# Altium integrated library Renesas Microcontroller H8.IntLib: 489 symbols (part 19 of 25)
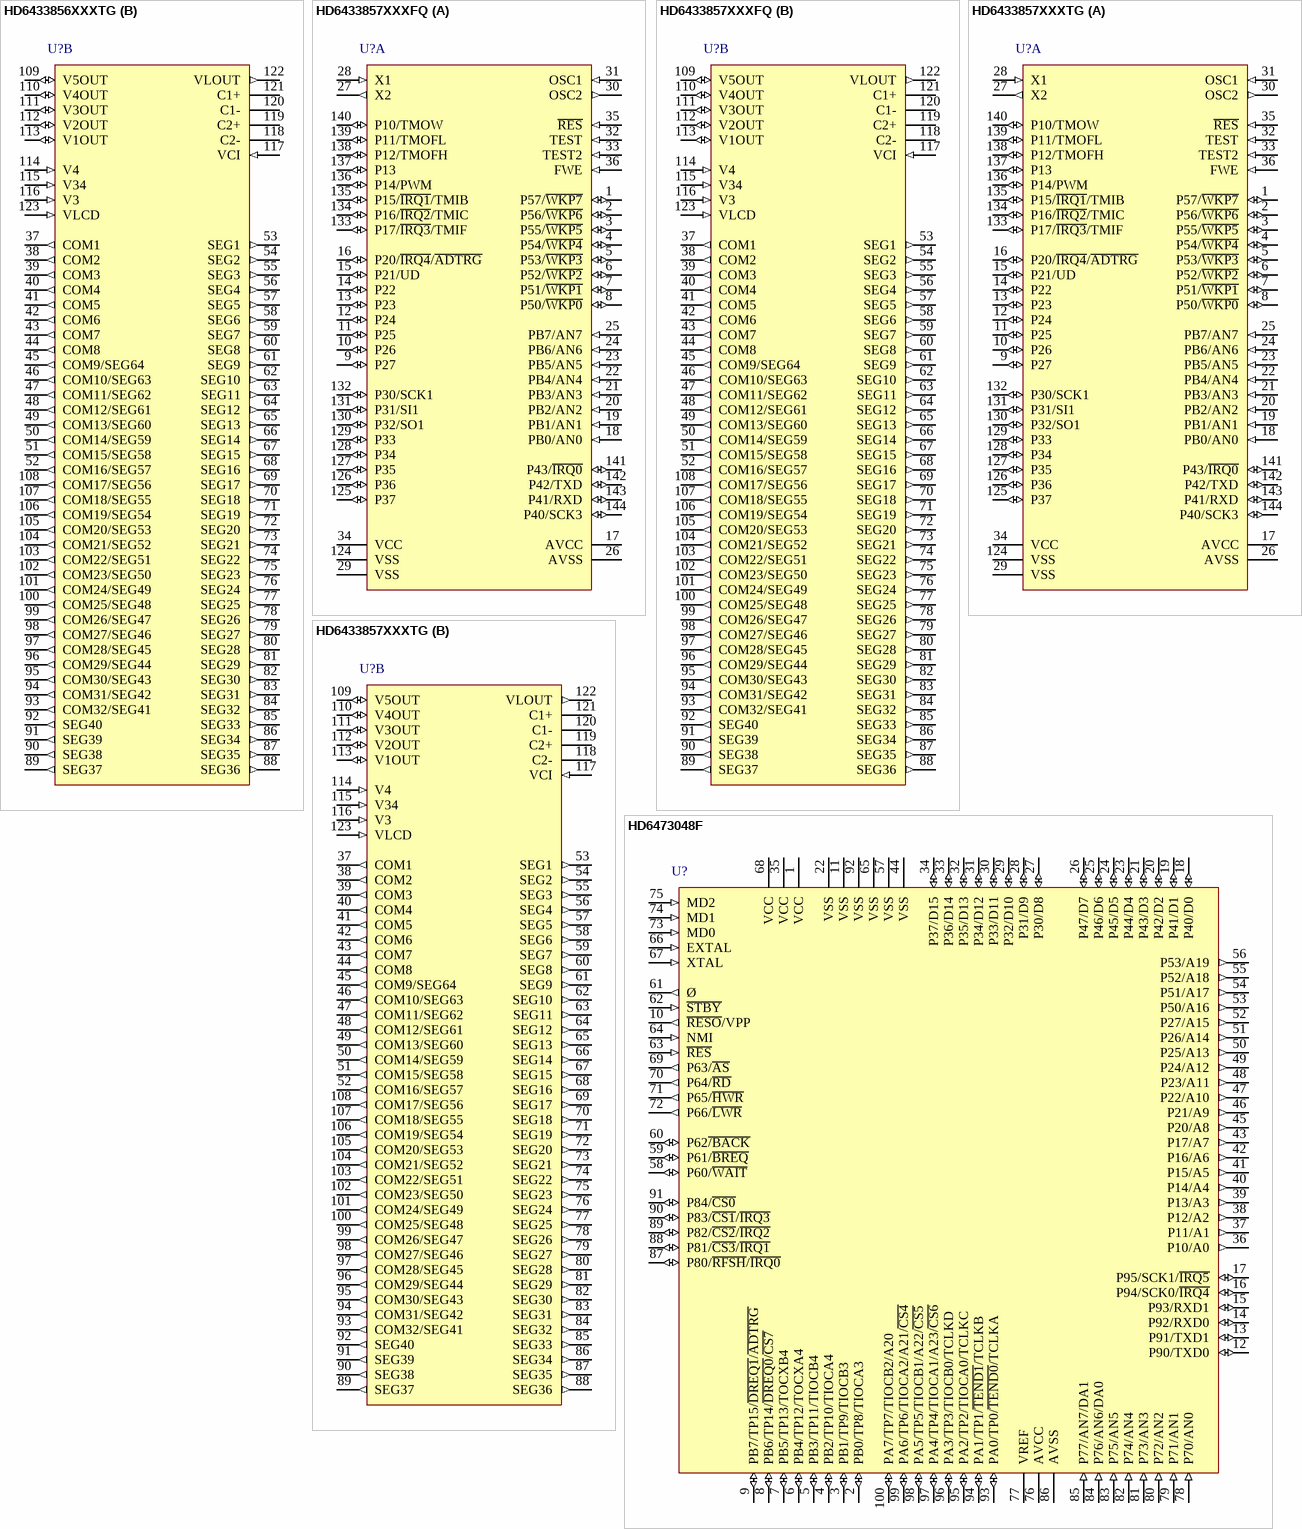
[diagram p106: symbols HD6433856XXXTG to HD6473048F]

## HD6433857XXXFQ
designator U?
H8 Family 8-bit MCU, H8/300L Super Low Power, 60K ROM, 2K RAM, 2.5MHz, 3.0 to 5.5V, 144-Pin QFP; Published: 28-Aug-2009; DatasheetVersion: Rev.3.00, Jul-2007; PackageVersion: Sep-2005; PackageReference: PLQP0144KC-A; Publisher: Altium Limited; PackageDescription: 144-Pin Plastic Low Profile QFP, 20 x 20 x 1.45 mm Body, 0.5 mm Pitch; Code_JEITA: P-LQFP144-20x20-0.50; Code_IPC: SQFP50P2200X2200-144; ComponentLink1Description: Manufacturer Link; ComponentLink1URL: http://sg.renesas.com/fmwk.jsp?cnt=h8_family_landing.jsp&fp=/products/mpumcu/h8_family/; ComponentLink2Description: Datasheet; ComponentLink2URL: http://documentation.renesas.com/eng/products/mpumcu/rej09b0397_3857hm.pdf; ComponentLink3Description: Packaging Specification; ComponentLink3URL: http://sg.renesas.com/media/products/common_info/package/pdf/ic/code/plqp0144kc_a.pdf
footprint PLQP0144KC-A_N (Shrink QFP, 144-Leads, Body 20x20mm, Pitch 0.5mm, IPC Medium Density)
footprint PLQP0144KC-A_L (Shrink QFP, 144-Leads, Body 20x20mm, Pitch 0.5mm, IPC High Density)
footprint PLQP0144KC-A_M (Shrink QFP, 144-Leads, Body 20x20mm, Pitch 0.5mm, IPC Low Density)
part A pins: 1 P57/~{WKP7} (io), 2 P56/~{WKP6} (io), 3 P55/~{WKP5} (io), 4 P54/~{WKP4} (io), 5 P53/~{WKP3} (io), 6 P52/~{WKP2} (io), 7 P51/~{WKP1} (io), 8 P50/~{WKP0} (io), 9 P27 (io), 10 P26 (io), 11 P25 (io), 12 P24 (io), 13 P23 (io), 14 P22 (io), 15 P21/UD (io), 16 P20/~{IRQ4}/~{ADTRG} (io), 17 AVCC (power), 18 PB0/AN0 (in), 19 PB1/AN1 (in), 20 PB2/AN2 (in), 21 PB3/AN3 (in), 22 PB4/AN4 (in), 23 PB5/AN5 (in), 24 PB6/AN6 (in), 25 PB7/AN7 (in), 26 AVSS (power), 27 X2 (out), 28 X1 (in), 29 VSS (power), 30 OSC2 (out), 31 OSC1 (in), 32 TEST (in), 33 TEST2 (in), 34 VCC (power), 35 ~{RES} (in), 36 FWE (in), 124 VSS (power), 125 P37 (io), 126 P36 (io), 127 P35 (io), 128 P34 (io), 129 P33 (io), 130 P32/SO1 (io), 131 P31/SI1 (io), 132 P30/SCK1 (io), 133 P17/~{IRQ3}/TMIF (io), 134 P16/~{IRQ2}/TMIC (io), 135 P15/~{IRQ1}/TMIB (io), 136 P14/PWM (io), 137 P13 (io), 138 P12/TMOFH (io), 139 P11/TMOFL (io), 140 P10/TMOW (io), 141 P43/~{IRQ0} (io), 142 P42/TXD (io), 143 P41/RXD (io), 144 P40/SCK3 (io)
part B pins: 37 COM1 (out), 38 COM2 (out), 39 COM3 (out), 40 COM4 (out), 41 COM5 (out), 42 COM6 (out), 43 COM7 (out), 44 COM8 (out), 45 COM9/SEG64 (out), 46 COM10/SEG63 (out), 47 COM11/SEG62 (out), 48 COM12/SEG61 (out), 49 COM13/SEG60 (out), 50 COM14/SEG59 (out), 51 COM15/SEG58 (out), 52 COM16/SEG57 (out), 53 SEG1 (out), 54 SEG2 (out), 55 SEG3 (out), 56 SEG4 (out), 57 SEG5 (out), 58 SEG6 (out), 59 SEG7 (out), 60 SEG8 (out), 61 SEG9 (out), 62 SEG10 (out), 63 SEG11 (out), 64 SEG12 (out), 65 SEG13 (out), 66 SEG14 (out), 67 SEG15 (out), 68 SEG16 (out), 69 SEG17 (out), 70 SEG18 (out), 71 SEG19 (out), 72 SEG20 (out), 73 SEG21 (out), 74 SEG22 (out), 75 SEG23 (out), 76 SEG24 (out), 77 SEG25 (out), 78 SEG26 (out), 79 SEG27 (out), 80 SEG28 (out), 81 SEG29 (out), 82 SEG30 (out), 83 SEG31 (out), 84 SEG32 (out), 85 SEG33 (out), 86 SEG34 (out), 87 SEG35 (out), 88 SEG36 (out), 89 SEG37 (out), 90 SEG38 (out), 91 SEG39 (out), 92 SEG40 (out), 93 COM32/SEG41 (out), 94 COM31/SEG42 (out), 95 COM30/SEG43 (out), 96 COM29/SEG44 (out), 97 COM28/SEG45 (out), 98 COM27/SEG46 (out), 99 COM26/SEG47 (out), 100 COM25/SEG48 (out), 101 COM24/SEG49 (out), 102 COM23/SEG50 (out), 103 COM22/SEG51 (out), 104 COM21/SEG52 (out), 105 COM20/SEG53 (out), 106 COM19/SEG54 (out), 107 COM18/SEG55 (out), 108 COM17/SEG56 (out), 109 V5OUT (io), 110 V4OUT (io), 111 V3OUT (io), 112 V2OUT (io), 113 V1OUT (io), 114 V4 (in), 115 V34 (in), 116 V3 (in), 117 VCI (in), 118 C2-, 119 C2+, 120 C1-, 121 C1+, 122 VLOUT (out), 123 VLCD (in)

## HD6433857XXXTG
designator U?
H8 Family 8-bit MCU, H8/300L Super Low Power, 60K ROM, 2K RAM, 2.5MHz, 3.0 to 5.5V, 144-Pin QFP; Published: 28-Aug-2009; DatasheetVersion: Rev.3.00, Jul-2007; PackageVersion: Sep-2005; PackageReference: PTQP0144LC-A; Publisher: Altium Limited; PackageDescription: 144-Pin Plastic Thin Quad Flat Pack, 16 x 16 mm Body, 0.4 mm Pitch; Code_JEITA: P-TQFP144-16x16-0.40; ComponentLink1Description: Manufacturer Link; ComponentLink1URL: http://sg.renesas.com/fmwk.jsp?cnt=h8_family_landing.jsp&fp=/products/mpumcu/h8_family/; ComponentLink2Description: Datasheet; ComponentLink2URL: http://documentation.renesas.com/eng/products/mpumcu/rej09b0397_3857hm.pdf; ComponentLink3Description: Packaging Specification; ComponentLink3URL: http://sg.renesas.com/media/products/common_info/package/pdf/ic/code/ptqp0144lc_a.pdf
footprint PTQP0144LC-A_N (Thin QFP, 144-Leads, Body 16x16mm, Pitch 0.4mm, IPC Medium Density)
footprint PTQP0144LC-A_L (Thin QFP, 144-Leads, Body 16x16mm, Pitch 0.4mm, IPC High Density)
footprint PTQP0144LC-A_M (Thin QFP, 144-Leads, Body 16x16mm, Pitch 0.4mm, IPC Low Density)
part A pins: 1 P57/~{WKP7} (io), 2 P56/~{WKP6} (io), 3 P55/~{WKP5} (io), 4 P54/~{WKP4} (io), 5 P53/~{WKP3} (io), 6 P52/~{WKP2} (io), 7 P51/~{WKP1} (io), 8 P50/~{WKP0} (io), 9 P27 (io), 10 P26 (io), 11 P25 (io), 12 P24 (io), 13 P23 (io), 14 P22 (io), 15 P21/UD (io), 16 P20/~{IRQ4}/~{ADTRG} (io), 17 AVCC (power), 18 PB0/AN0 (in), 19 PB1/AN1 (in), 20 PB2/AN2 (in), 21 PB3/AN3 (in), 22 PB4/AN4 (in), 23 PB5/AN5 (in), 24 PB6/AN6 (in), 25 PB7/AN7 (in), 26 AVSS (power), 27 X2 (out), 28 X1 (in), 29 VSS (power), 30 OSC2 (out), 31 OSC1 (in), 32 TEST (in), 33 TEST2 (in), 34 VCC (power), 35 ~{RES} (in), 36 FWE (in), 124 VSS (power), 125 P37 (io), 126 P36 (io), 127 P35 (io), 128 P34 (io), 129 P33 (io), 130 P32/SO1 (io), 131 P31/SI1 (io), 132 P30/SCK1 (io), 133 P17/~{IRQ3}/TMIF (io), 134 P16/~{IRQ2}/TMIC (io), 135 P15/~{IRQ1}/TMIB (io), 136 P14/PWM (io), 137 P13 (io), 138 P12/TMOFH (io), 139 P11/TMOFL (io), 140 P10/TMOW (io), 141 P43/~{IRQ0} (io), 142 P42/TXD (io), 143 P41/RXD (io), 144 P40/SCK3 (io)
part B pins: 37 COM1 (out), 38 COM2 (out), 39 COM3 (out), 40 COM4 (out), 41 COM5 (out), 42 COM6 (out), 43 COM7 (out), 44 COM8 (out), 45 COM9/SEG64 (out), 46 COM10/SEG63 (out), 47 COM11/SEG62 (out), 48 COM12/SEG61 (out), 49 COM13/SEG60 (out), 50 COM14/SEG59 (out), 51 COM15/SEG58 (out), 52 COM16/SEG57 (out), 53 SEG1 (out), 54 SEG2 (out), 55 SEG3 (out), 56 SEG4 (out), 57 SEG5 (out), 58 SEG6 (out), 59 SEG7 (out), 60 SEG8 (out), 61 SEG9 (out), 62 SEG10 (out), 63 SEG11 (out), 64 SEG12 (out), 65 SEG13 (out), 66 SEG14 (out), 67 SEG15 (out), 68 SEG16 (out), 69 SEG17 (out), 70 SEG18 (out), 71 SEG19 (out), 72 SEG20 (out), 73 SEG21 (out), 74 SEG22 (out), 75 SEG23 (out), 76 SEG24 (out), 77 SEG25 (out), 78 SEG26 (out), 79 SEG27 (out), 80 SEG28 (out), 81 SEG29 (out), 82 SEG30 (out), 83 SEG31 (out), 84 SEG32 (out), 85 SEG33 (out), 86 SEG34 (out), 87 SEG35 (out), 88 SEG36 (out), 89 SEG37 (out), 90 SEG38 (out), 91 SEG39 (out), 92 SEG40 (out), 93 COM32/SEG41 (out), 94 COM31/SEG42 (out), 95 COM30/SEG43 (out), 96 COM29/SEG44 (out), 97 COM28/SEG45 (out), 98 COM27/SEG46 (out), 99 COM26/SEG47 (out), 100 COM25/SEG48 (out), 101 COM24/SEG49 (out), 102 COM23/SEG50 (out), 103 COM22/SEG51 (out), 104 COM21/SEG52 (out), 105 COM20/SEG53 (out), 106 COM19/SEG54 (out), 107 COM18/SEG55 (out), 108 COM17/SEG56 (out), 109 V5OUT (io), 110 V4OUT (io), 111 V3OUT (io), 112 V2OUT (io), 113 V1OUT (io), 114 V4 (in), 115 V34 (in), 116 V3 (in), 117 VCI (in), 118 C2-, 119 C2+, 120 C1-, 121 C1+, 122 VLOUT (out), 123 VLCD (in)

## HD6473048F
designator U?
H8 Family 32/16-bit CISC, H8/300H, 128K ROM, 4K RAM, 18MHz, 4.5 to 5.5V, 100-Pin QFP; Published: 28-Aug-2009; DatasheetVersion: Rev.3.00, Sep-2006; PackageVersion: Sep-2009; PackageReference: PRQP0100KA-A; Publisher: Altium Limited; PackageDescription: 100-Pin Plastic Quad Flat Pack, 14 x 14 x 2.7 mm Body, 0.5 mm Pitch; Code_JEITA: P-QFP100-14x14-0.50; ComponentLink1Description: Manufacturer Link; ComponentLink1URL: http://sg.renesas.com/fmwk.jsp?cnt=h8_family_landing.jsp&fp=/products/mpumcu/h8_family/; ComponentLink2Description: Datasheet; ComponentLink2URL: http://documentation.renesas.com/eng/products/mpumcu/rej09b0259_3048hm.pdf; ComponentLink3Description: Packaging Specification; ComponentLink3URL: http://sg.renesas.com/media/products/common_info/package/pdf/ic/code/prqp0100ka_a.pdf
footprint PRQP0100KA-A_N (Shrink QFP, 100-Leads, Body 14x14mm, Pitch 0.5mm, IPC Medium Density)
footprint PRQP0100KA-A_L (Shrink QFP, 100-Leads, Body 14x14mm, Pitch 0.5mm, IPC High Density)
footprint PRQP0100KA-A_M (Shrink QFP, 100-Leads, Body 14x14mm, Pitch 0.5mm, IPC Low Density)
pins: 1 VCC (power), 2 PB0/TP8/TIOCA3 (io), 3 PB1/TP9/TIOCB3 (io), 4 PB2/TP10/TIOCA4 (io), 5 PB3/TP11/TIOCB4 (io), 6 PB4/TP12/TOCXA4 (io), 7 PB5/TP13/TOCXB4 (io), 8 PB6/TP14/~{DREQ0}/~{CS7} (io), 9 PB7/TP15/~{DREQ1}/~{ADTRG} (io), 10 ~{RESO}/VPP (out), 11 VSS (power), 12 P90/TXD0 (io), 13 P91/TXD1 (io), 14 P92/RXD0 (io), 15 P93/RXD1 (io), 16 P94/SCK0/~{IRQ4} (io), 17 P95/SCK1/~{IRQ5} (io), 18 P40/D0 (io), 19 P41/D1 (io), 20 P42/D2 (io), 21 P43/D3 (io), 22 VSS (power), 23 P44/D4 (io), 24 P45/D5 (io), 25 P46/D6 (io), 26 P47/D7 (io), 27 P30/D8 (io), 28 P31/D9 (io), 29 P32/D10 (io), 30 P33/D11 (io), 31 P34/D12 (io), 32 P35/D13 (io), 33 P36/D14 (io), 34 P37/D15 (io), 35 VCC (power), 36 P10/A0 (out), 37 P11/A1 (out), 38 P12/A2 (out), 39 P13/A3 (out), 40 P14/A4 (out), 41 P15/A5 (out), 42 P16/A6 (out), 43 P17/A7 (out), 44 VSS (power), 45 P20/A8 (out), 46 P21/A9 (out), 47 P22/A10 (out), 48 P23/A11 (out), 49 P24/A12 (out), 50 P25/A13 (out), 51 P26/A14 (out), 52 P27/A15 (out), 53 P50/A16 (out), 54 P51/A17 (out), 55 P52/A18 (out), 56 P53/A19 (out), 57 VSS (power), 58 P60/~{WAIT} (io), 59 P61/~{BREQ} (io), 60 P62~{/BACK} (io), 61 Ø (out), 62 ~{STBY} (in), 63 ~{RES} (in), 64 NMI (in), 65 VSS (power), 66 EXTAL (in), 67 XTAL (in), 68 VCC (power), 69 P63/~{AS} (out), 70 P64/~{RD} (out), 71 P65/~{HWR} (out), 72 P66/~{LWR} (out), 73 MD0 (in), 74 MD1 (in), 75 MD2 (in), 76 AVCC (power), 77 VREF (power), 78 P70/AN0 (in), 79 P71/AN1 (in), 80 P72/AN2 (in), 81 P73/AN3 (in), 82 P74/AN4 (in), 83 P75/AN5 (in), 84 P76/AN6/DA0 (in), 85 P77/AN7/DA1 (in), 86 AVSS (power), 87 P80/~{RFSH}/~{IRQ0} (io), 88 P81/~{CS3}/~{IRQ1} (io), 89 P82/~{CS2}/~{IRQ2} (io), 90 P83/~{CS1}/~{IRQ3} (io), 91 P84/~{CS0} (io), 92 VSS (power), 93 PA0/TP0/~{TEND0}/TCLKA (io), 94 PA1/TP1/~{TEND1}/TCLKB (io), 95 PA2/TP2/TIOCA0/TCLKC (io), 96 PA3/TP3/TIOCB0/TCLKD (io), 97 PA4/TP4/TIOCA1/A23/~{CS6} (io), 98 PA5/TP5/TIOCB1/A22/~{CS5} (io), 99 PA6/TP6/TIOCA2/A21/~{CS4} (io), 100 PA7/TP7/TIOCB2/A20 (io)

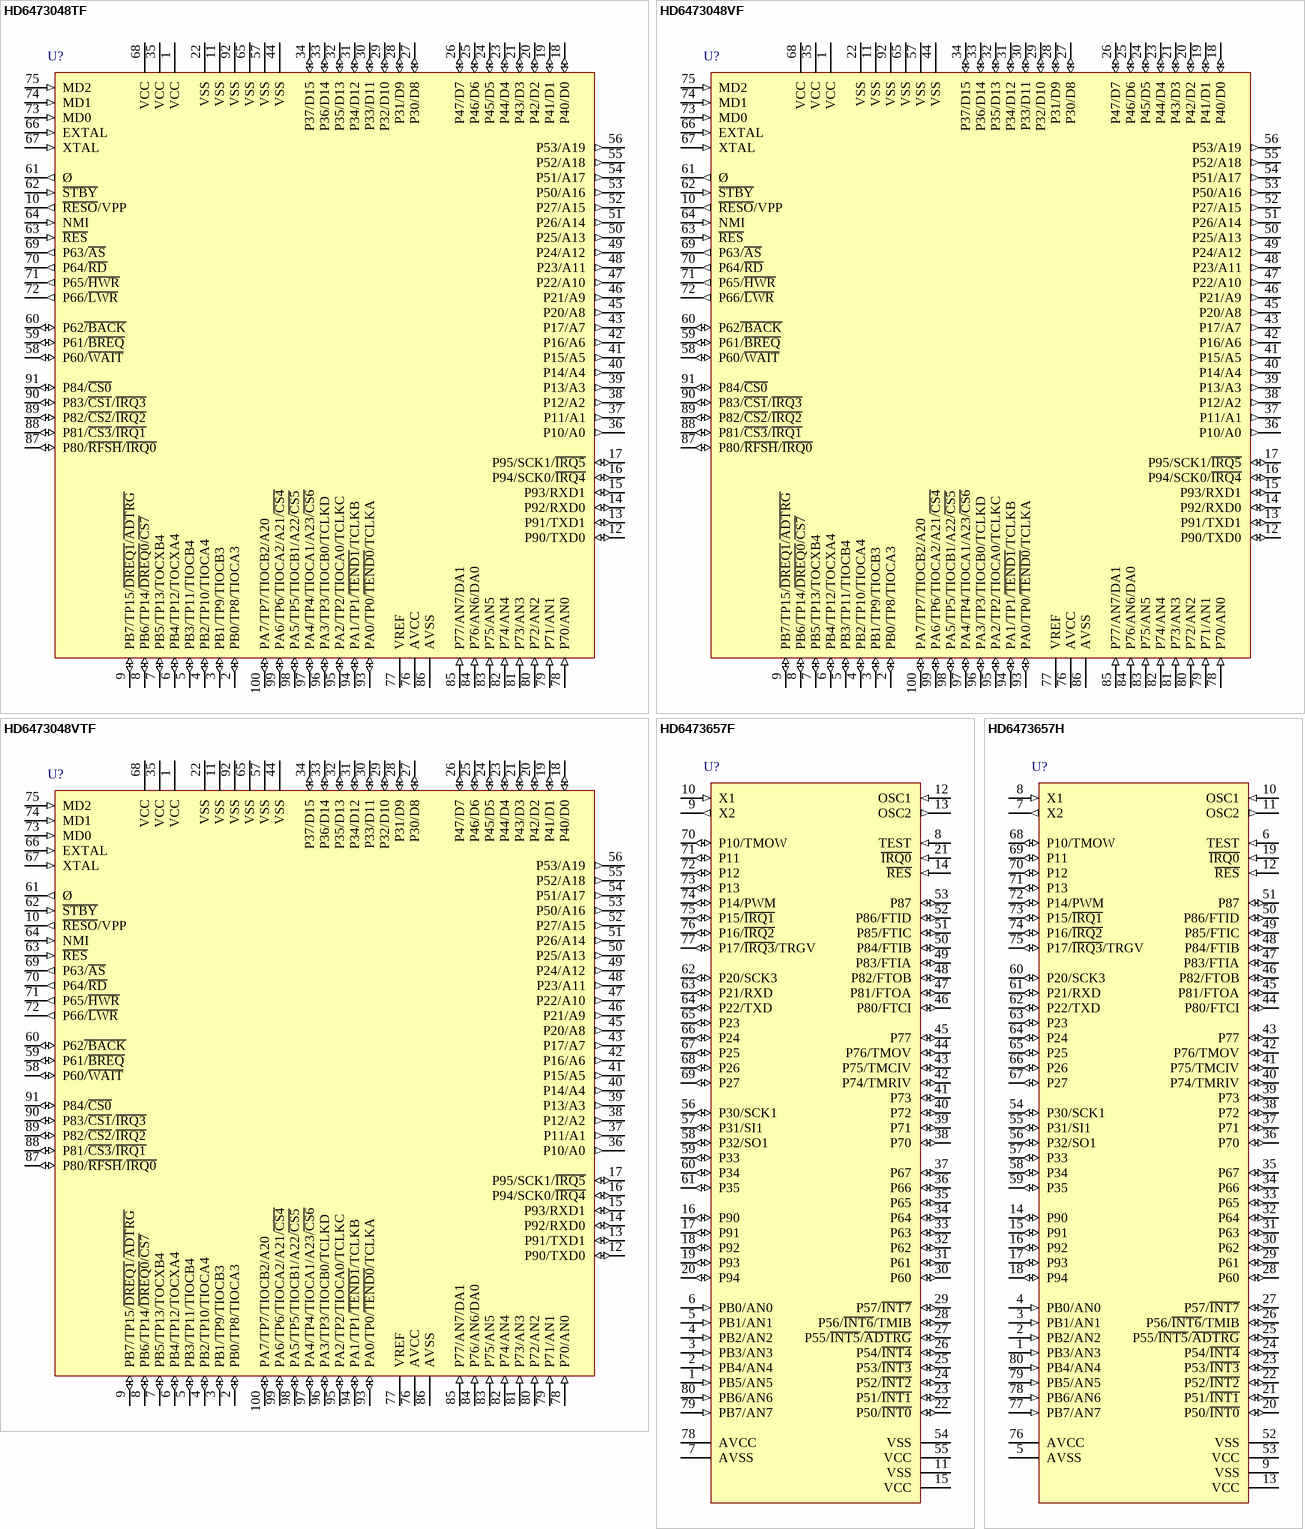
[diagram p66: symbols HD6473048TF to HD6473657H]

## HD6473048TF
designator U?
H8 Family 32/16-bit CISC, H8/300H, 128K ROM, 4K RAM, 18MHz, 4.5 to 5.5V, 100-Pin QFP; Published: 28-Aug-2009; DatasheetVersion: Rev.3.00, Sep-2006; PackageVersion: Sep-2005; PackageReference: PTQP0100KA-A; Publisher: Altium Limited; PackageDescription: 100-Pin Plastic Thin Quad Flat Pack, 14 x 14 x 1.0 mm Body, 0.5 mm Pitch; Code_JEITA: P-TQFP100-14x14-0.50; ComponentLink1Description: Manufacturer Link; ComponentLink1URL: http://sg.renesas.com/fmwk.jsp?cnt=h8_family_landing.jsp&fp=/products/mpumcu/h8_family/; ComponentLink2Description: Datasheet; ComponentLink2URL: http://documentation.renesas.com/eng/products/mpumcu/rej09b0259_3048hm.pdf; ComponentLink3Description: Packaging Specification; ComponentLink3URL: http://sg.renesas.com/media/products/common_info/package/pdf/ic/code/ptqp0100ka_a.pdf
footprint PTQP0100KA-A_N (Thin QFP, 100-Leads, Body 14x14mm, Pitch 0.5mm, IPC Medium Density)
footprint PTQP0100KA-A_L (Thin QFP, 100-Leads, Body 14x14mm, Pitch 0.5mm, IPC High Density)
footprint PTQP0100KA-A_M (Thin QFP, 100-Leads, Body 14x14mm, Pitch 0.5mm, IPC Low Density)
pins: 1 VCC (power), 2 PB0/TP8/TIOCA3 (io), 3 PB1/TP9/TIOCB3 (io), 4 PB2/TP10/TIOCA4 (io), 5 PB3/TP11/TIOCB4 (io), 6 PB4/TP12/TOCXA4 (io), 7 PB5/TP13/TOCXB4 (io), 8 PB6/TP14/~{DREQ0}/~{CS7} (io), 9 PB7/TP15/~{DREQ1}/~{ADTRG} (io), 10 ~{RESO}/VPP (out), 11 VSS (power), 12 P90/TXD0 (io), 13 P91/TXD1 (io), 14 P92/RXD0 (io), 15 P93/RXD1 (io), 16 P94/SCK0/~{IRQ4} (io), 17 P95/SCK1/~{IRQ5} (io), 18 P40/D0 (io), 19 P41/D1 (io), 20 P42/D2 (io), 21 P43/D3 (io), 22 VSS (power), 23 P44/D4 (io), 24 P45/D5 (io), 25 P46/D6 (io), 26 P47/D7 (io), 27 P30/D8 (io), 28 P31/D9 (io), 29 P32/D10 (io), 30 P33/D11 (io), 31 P34/D12 (io), 32 P35/D13 (io), 33 P36/D14 (io), 34 P37/D15 (io), 35 VCC (power), 36 P10/A0 (out), 37 P11/A1 (out), 38 P12/A2 (out), 39 P13/A3 (out), 40 P14/A4 (out), 41 P15/A5 (out), 42 P16/A6 (out), 43 P17/A7 (out), 44 VSS (power), 45 P20/A8 (out), 46 P21/A9 (out), 47 P22/A10 (out), 48 P23/A11 (out), 49 P24/A12 (out), 50 P25/A13 (out), 51 P26/A14 (out), 52 P27/A15 (out), 53 P50/A16 (out), 54 P51/A17 (out), 55 P52/A18 (out), 56 P53/A19 (out), 57 VSS (power), 58 P60/~{WAIT} (io), 59 P61/~{BREQ} (io), 60 P62~{/BACK} (io), 61 Ø (out), 62 ~{STBY} (in), 63 ~{RES} (in), 64 NMI (in), 65 VSS (power), 66 EXTAL (in), 67 XTAL (in), 68 VCC (power), 69 P63/~{AS} (out), 70 P64/~{RD} (out), 71 P65/~{HWR} (out), 72 P66/~{LWR} (out), 73 MD0 (in), 74 MD1 (in), 75 MD2 (in), 76 AVCC (power), 77 VREF (power), 78 P70/AN0 (in), 79 P71/AN1 (in), 80 P72/AN2 (in), 81 P73/AN3 (in), 82 P74/AN4 (in), 83 P75/AN5 (in), 84 P76/AN6/DA0 (in), 85 P77/AN7/DA1 (in), 86 AVSS (power), 87 P80/~{RFSH}/~{IRQ0} (io), 88 P81/~{CS3}/~{IRQ1} (io), 89 P82/~{CS2}/~{IRQ2} (io), 90 P83/~{CS1}/~{IRQ3} (io), 91 P84/~{CS0} (io), 92 VSS (power), 93 PA0/TP0/~{TEND0}/TCLKA (io), 94 PA1/TP1/~{TEND1}/TCLKB (io), 95 PA2/TP2/TIOCA0/TCLKC (io), 96 PA3/TP3/TIOCB0/TCLKD (io), 97 PA4/TP4/TIOCA1/A23/~{CS6} (io), 98 PA5/TP5/TIOCB1/A22/~{CS5} (io), 99 PA6/TP6/TIOCA2/A21/~{CS4} (io), 100 PA7/TP7/TIOCB2/A20 (io)

## HD6473048VF
designator U?
H8 Family 32/16-bit CISC, H8/300H, 128K ROM, 4K RAM, 13MHz, 3.15 to 5.5V, 100-Pin QFP; Published: 28-Aug-2009; DatasheetVersion: Rev.3.00, Sep-2006; PackageVersion: Sep-2009; PackageReference: PRQP0100KA-A; Publisher: Altium Limited; PackageDescription: 100-Pin Plastic Quad Flat Pack, 14 x 14 x 2.7 mm Body, 0.5 mm Pitch; Code_JEITA: P-QFP100-14x14-0.50; ComponentLink1Description: Manufacturer Link; ComponentLink1URL: http://sg.renesas.com/fmwk.jsp?cnt=h8_family_landing.jsp&fp=/products/mpumcu/h8_family/; ComponentLink2Description: Datasheet; ComponentLink2URL: http://documentation.renesas.com/eng/products/mpumcu/rej09b0259_3048hm.pdf; ComponentLink3Description: Packaging Specification; ComponentLink3URL: http://sg.renesas.com/media/products/common_info/package/pdf/ic/code/prqp0100ka_a.pdf
footprint PRQP0100KA-A_N (Shrink QFP, 100-Leads, Body 14x14mm, Pitch 0.5mm, IPC Medium Density)
footprint PRQP0100KA-A_L (Shrink QFP, 100-Leads, Body 14x14mm, Pitch 0.5mm, IPC High Density)
footprint PRQP0100KA-A_M (Shrink QFP, 100-Leads, Body 14x14mm, Pitch 0.5mm, IPC Low Density)
pins: 1 VCC (power), 2 PB0/TP8/TIOCA3 (io), 3 PB1/TP9/TIOCB3 (io), 4 PB2/TP10/TIOCA4 (io), 5 PB3/TP11/TIOCB4 (io), 6 PB4/TP12/TOCXA4 (io), 7 PB5/TP13/TOCXB4 (io), 8 PB6/TP14/~{DREQ0}/~{CS7} (io), 9 PB7/TP15/~{DREQ1}/~{ADTRG} (io), 10 ~{RESO}/VPP (out), 11 VSS (power), 12 P90/TXD0 (io), 13 P91/TXD1 (io), 14 P92/RXD0 (io), 15 P93/RXD1 (io), 16 P94/SCK0/~{IRQ4} (io), 17 P95/SCK1/~{IRQ5} (io), 18 P40/D0 (io), 19 P41/D1 (io), 20 P42/D2 (io), 21 P43/D3 (io), 22 VSS (power), 23 P44/D4 (io), 24 P45/D5 (io), 25 P46/D6 (io), 26 P47/D7 (io), 27 P30/D8 (io), 28 P31/D9 (io), 29 P32/D10 (io), 30 P33/D11 (io), 31 P34/D12 (io), 32 P35/D13 (io), 33 P36/D14 (io), 34 P37/D15 (io), 35 VCC (power), 36 P10/A0 (out), 37 P11/A1 (out), 38 P12/A2 (out), 39 P13/A3 (out), 40 P14/A4 (out), 41 P15/A5 (out), 42 P16/A6 (out), 43 P17/A7 (out), 44 VSS (power), 45 P20/A8 (out), 46 P21/A9 (out), 47 P22/A10 (out), 48 P23/A11 (out), 49 P24/A12 (out), 50 P25/A13 (out), 51 P26/A14 (out), 52 P27/A15 (out), 53 P50/A16 (out), 54 P51/A17 (out), 55 P52/A18 (out), 56 P53/A19 (out), 57 VSS (power), 58 P60/~{WAIT} (io), 59 P61/~{BREQ} (io), 60 P62~{/BACK} (io), 61 Ø (out), 62 ~{STBY} (in), 63 ~{RES} (in), 64 NMI (in), 65 VSS (power), 66 EXTAL (in), 67 XTAL (in), 68 VCC (power), 69 P63/~{AS} (out), 70 P64/~{RD} (out), 71 P65/~{HWR} (out), 72 P66/~{LWR} (out), 73 MD0 (in), 74 MD1 (in), 75 MD2 (in), 76 AVCC (power), 77 VREF (power), 78 P70/AN0 (in), 79 P71/AN1 (in), 80 P72/AN2 (in), 81 P73/AN3 (in), 82 P74/AN4 (in), 83 P75/AN5 (in), 84 P76/AN6/DA0 (in), 85 P77/AN7/DA1 (in), 86 AVSS (power), 87 P80/~{RFSH}/~{IRQ0} (io), 88 P81/~{CS3}/~{IRQ1} (io), 89 P82/~{CS2}/~{IRQ2} (io), 90 P83/~{CS1}/~{IRQ3} (io), 91 P84/~{CS0} (io), 92 VSS (power), 93 PA0/TP0/~{TEND0}/TCLKA (io), 94 PA1/TP1/~{TEND1}/TCLKB (io), 95 PA2/TP2/TIOCA0/TCLKC (io), 96 PA3/TP3/TIOCB0/TCLKD (io), 97 PA4/TP4/TIOCA1/A23/~{CS6} (io), 98 PA5/TP5/TIOCB1/A22/~{CS5} (io), 99 PA6/TP6/TIOCA2/A21/~{CS4} (io), 100 PA7/TP7/TIOCB2/A20 (io)

## HD6473048VTF
designator U?
H8 Family 32/16-bit CISC, H8/300H, 128K ROM, 4K RAM, 13MHz, 3.15 to 5.5V, 100-Pin QFP; Published: 28-Aug-2009; DatasheetVersion: Rev.3.00, Sep-2006; PackageVersion: Sep-2005; PackageReference: PTQP0100KA-A; Publisher: Altium Limited; PackageDescription: 100-Pin Plastic Thin Quad Flat Pack, 14 x 14 x 1.0 mm Body, 0.5 mm Pitch; Code_JEITA: P-TQFP100-14x14-0.50; ComponentLink1Description: Manufacturer Link; ComponentLink1URL: http://sg.renesas.com/fmwk.jsp?cnt=h8_family_landing.jsp&fp=/products/mpumcu/h8_family/; ComponentLink2Description: Datasheet; ComponentLink2URL: http://documentation.renesas.com/eng/products/mpumcu/rej09b0259_3048hm.pdf; ComponentLink3Description: Packaging Specification; ComponentLink3URL: http://sg.renesas.com/media/products/common_info/package/pdf/ic/code/ptqp0100ka_a.pdf
footprint PTQP0100KA-A_N (Thin QFP, 100-Leads, Body 14x14mm, Pitch 0.5mm, IPC Medium Density)
footprint PTQP0100KA-A_L (Thin QFP, 100-Leads, Body 14x14mm, Pitch 0.5mm, IPC High Density)
footprint PTQP0100KA-A_M (Thin QFP, 100-Leads, Body 14x14mm, Pitch 0.5mm, IPC Low Density)
pins: 1 VCC (power), 2 PB0/TP8/TIOCA3 (io), 3 PB1/TP9/TIOCB3 (io), 4 PB2/TP10/TIOCA4 (io), 5 PB3/TP11/TIOCB4 (io), 6 PB4/TP12/TOCXA4 (io), 7 PB5/TP13/TOCXB4 (io), 8 PB6/TP14/~{DREQ0}/~{CS7} (io), 9 PB7/TP15/~{DREQ1}/~{ADTRG} (io), 10 ~{RESO}/VPP (out), 11 VSS (power), 12 P90/TXD0 (io), 13 P91/TXD1 (io), 14 P92/RXD0 (io), 15 P93/RXD1 (io), 16 P94/SCK0/~{IRQ4} (io), 17 P95/SCK1/~{IRQ5} (io), 18 P40/D0 (io), 19 P41/D1 (io), 20 P42/D2 (io), 21 P43/D3 (io), 22 VSS (power), 23 P44/D4 (io), 24 P45/D5 (io), 25 P46/D6 (io), 26 P47/D7 (io), 27 P30/D8 (io), 28 P31/D9 (io), 29 P32/D10 (io), 30 P33/D11 (io), 31 P34/D12 (io), 32 P35/D13 (io), 33 P36/D14 (io), 34 P37/D15 (io), 35 VCC (power), 36 P10/A0 (out), 37 P11/A1 (out), 38 P12/A2 (out), 39 P13/A3 (out), 40 P14/A4 (out), 41 P15/A5 (out), 42 P16/A6 (out), 43 P17/A7 (out), 44 VSS (power), 45 P20/A8 (out), 46 P21/A9 (out), 47 P22/A10 (out), 48 P23/A11 (out), 49 P24/A12 (out), 50 P25/A13 (out), 51 P26/A14 (out), 52 P27/A15 (out), 53 P50/A16 (out), 54 P51/A17 (out), 55 P52/A18 (out), 56 P53/A19 (out), 57 VSS (power), 58 P60/~{WAIT} (io), 59 P61/~{BREQ} (io), 60 P62~{/BACK} (io), 61 Ø (out), 62 ~{STBY} (in), 63 ~{RES} (in), 64 NMI (in), 65 VSS (power), 66 EXTAL (in), 67 XTAL (in), 68 VCC (power), 69 P63/~{AS} (out), 70 P64/~{RD} (out), 71 P65/~{HWR} (out), 72 P66/~{LWR} (out), 73 MD0 (in), 74 MD1 (in), 75 MD2 (in), 76 AVCC (power), 77 VREF (power), 78 P70/AN0 (in), 79 P71/AN1 (in), 80 P72/AN2 (in), 81 P73/AN3 (in), 82 P74/AN4 (in), 83 P75/AN5 (in), 84 P76/AN6/DA0 (in), 85 P77/AN7/DA1 (in), 86 AVSS (power), 87 P80/~{RFSH}/~{IRQ0} (io), 88 P81/~{CS3}/~{IRQ1} (io), 89 P82/~{CS2}/~{IRQ2} (io), 90 P83/~{CS1}/~{IRQ3} (io), 91 P84/~{CS0} (io), 92 VSS (power), 93 PA0/TP0/~{TEND0}/TCLKA (io), 94 PA1/TP1/~{TEND1}/TCLKB (io), 95 PA2/TP2/TIOCA0/TCLKC (io), 96 PA3/TP3/TIOCB0/TCLKD (io), 97 PA4/TP4/TIOCA1/A23/~{CS6} (io), 98 PA5/TP5/TIOCB1/A22/~{CS5} (io), 99 PA6/TP6/TIOCA2/A21/~{CS4} (io), 100 PA7/TP7/TIOCB2/A20 (io)

## HD6473657F
designator U?
H8 Family 8-bit MCU, H8/300L, 60K ROM, 2K RAM, 2.5MHz, 2.2 to 5.5V, 80-Pin QFP; Published: 28-Aug-2009; DatasheetVersion: Oct-1997; PackageVersion: Sep-2005; PackageReference: PRQP0080GD-B; Publisher: Altium Limited; PackageDescription: 80-Pin Plastic Quad Flat Pack, 20 x 14 x 2.7 mm Body, 0.8 mm Pitch; Code_JEITA: P-QFP80-14x20-0.80; ComponentLink1Description: Manufacturer Link; ComponentLink1URL: http://sg.renesas.com/fmwk.jsp?cnt=h8_family_landing.jsp&fp=/products/mpumcu/h8_family/; ComponentLink2Description: Datasheet; ComponentLink2URL: http://documentation.renesas.com/eng/products/mpumcu/e602134_h83657.pdf; ComponentLink3Description: Packaging Specification; ComponentLink3URL: http://sg.renesas.com/media/products/common_info/package/pdf/ic/code/prqp0080gd_b.pdf
footprint PRQP0080GD-B_N (QFP, 80-Leads, Body 20x14mm, Pitch 0.8mm, IPC Medium Density)
footprint PRQP0080GD-B_L (QFP, 80-Leads, Body 20x14mm, Pitch 0.8mm, IPC High Density)
footprint PRQP0080GD-B_M (QFP, 80-Leads, Body 20x14mm, Pitch 0.8mm, IPC Low Density)
pins: 1 PB5/AN5 (in), 2 PB4/AN4 (in), 3 PB3/AN3 (in), 4 PB2/AN2 (in), 5 PB1/AN1 (in), 6 PB0/AN0 (in), 7 AVSS (power), 8 TEST (in), 9 X2 (out), 10 X1 (in), 11 VSS (power), 12 OSC1 (in), 13 OSC2 (out), 14 ~{RES} (in), 15 VCC (power), 16 P90 (io), 17 P91 (io), 18 P92 (io), 19 P93 (io), 20 P94 (io), 21 ~{IRQ0} (in), 22 P50/~{INT0} (io), 23 P51/~{INT1} (io), 24 P52/~{INT2} (io), 25 P53/~{INT3} (io), 26 P54/~{INT4} (io), 27 P55/~{INT5}/~{ADTRG} (io), 28 P56/~{INT6}/TMIB (io), 29 P57/~{INT7} (io), 30 P60 (io), 31 P61 (io), 32 P62 (io), 33 P63 (io), 34 P64 (io), 35 P65 (io), 36 P66 (io), 37 P67 (io), 38 P70 (io), 39 P71 (io), 40 P72 (io), 41 P73 (io), 42 P74/TMRIV (io), 43 P75/TMCIV (io), 44 P76/TMOV (io), 45 P77 (io), 46 P80/FTCI (io), 47 P81/FTOA (io), 48 P82/FTOB (io), 49 P83/FTIA (io), 50 P84/FTIB (io), 51 P85/FTIC (io), 52 P86/FTID (io), 53 P87 (io), 54 VSS (power), 55 VCC (power), 56 P30/SCK1 (io), 57 P31/SI1 (io), 58 P32/SO1 (io), 59 P33 (io), 60 P34 (io), 61 P35 (io), 62 P20/SCK3 (io), 63 P21/RXD (io), 64 P22/TXD (io), 65 P23 (io), 66 P24 (io), 67 P25 (io), 68 P26 (io), 69 P27 (io), 70 P10/TMOW (io), 71 P11 (io), 72 P12 (io), 73 P13 (io), 74 P14/PWM (io), 75 P15/~{IRQ1} (io), 76 P16/~{IRQ2} (io), 77 P17/~{IRQ3}/TRGV (io), 78 AVCC (power), 79 PB7/AN7 (in), 80 PB6/AN6 (in)

## HD6473657H
designator U?
H8 Family 8-bit MCU, H8/300L, 60K ROM, 2K RAM, 2.5MHz, 2.2 to 5.5V, 80-Pin QFP; Published: 28-Aug-2009; DatasheetVersion: Oct-1997; PackageVersion: Sep-2005; PackageReference: PRQP0080JB-A; Publisher: Altium Limited; PackageDescription: 80-Pin Plastic Quad Flat Pack, 14 x 14 x 2.7 mm Body, 0.65 mm Pitch; Code_JEITA: P-QFP80-14x14-0.65; Code_IPC: QFP65P1720X1720-80; ComponentLink1Description: Manufacturer Link; ComponentLink1URL: http://sg.renesas.com/fmwk.jsp?cnt=h8_family_landing.jsp&fp=/products/mpumcu/h8_family/; ComponentLink2Description: Datasheet; ComponentLink2URL: http://documentation.renesas.com/eng/products/mpumcu/e602134_h83657.pdf; ComponentLink3Description: Packaging Specification; ComponentLink3URL: http://sg.renesas.com/media/products/common_info/package/pdf/ic/code/prqp0080jb_a.pdf
footprint PRQP0080JB-A_N (QFP, 80-Leads, Body 14x14mm, Pitch 0.65mm, IPC Medium Density)
footprint PRQP0080JB-A_L (QFP, 80-Leads, Body 14x14mm, Pitch 0.65mm, IPC High Density)
footprint PRQP0080JB-A_M (QFP, 80-Leads, Body 14x14mm, Pitch 0.65mm, IPC Low Density)
pins: 1 PB3/AN3 (in), 2 PB2/AN2 (in), 3 PB1/AN1 (in), 4 PB0/AN0 (in), 5 AVSS (power), 6 TEST (in), 7 X2 (out), 8 X1 (in), 9 VSS (power), 10 OSC1 (in), 11 OSC2 (out), 12 ~{RES} (in), 13 VCC (power), 14 P90 (io), 15 P91 (io), 16 P92 (io), 17 P93 (io), 18 P94 (io), 19 ~{IRQ0} (in), 20 P50/~{INT0} (io), 21 P51/~{INT1} (io), 22 P52/~{INT2} (io), 23 P53/~{INT3} (io), 24 P54/~{INT4} (io), 25 P55/~{INT5}/~{ADTRG} (io), 26 P56/~{INT6}/TMIB (io), 27 P57/~{INT7} (io), 28 P60 (io), 29 P61 (io), 30 P62 (io), 31 P63 (io), 32 P64 (io), 33 P65 (io), 34 P66 (io), 35 P67 (io), 36 P70 (io), 37 P71 (io), 38 P72 (io), 39 P73 (io), 40 P74/TMRIV (io), 41 P75/TMCIV (io), 42 P76/TMOV (io), 43 P77 (io), 44 P80/FTCI (io), 45 P81/FTOA (io), 46 P82/FTOB (io), 47 P83/FTIA (io), 48 P84/FTIB (io), 49 P85/FTIC (io), 50 P86/FTID (io), 51 P87 (io), 52 VSS (power), 53 VCC (power), 54 P30/SCK1 (io), 55 P31/SI1 (io), 56 P32/SO1 (io), 57 P33 (io), 58 P34 (io), 59 P35 (io), 60 P20/SCK3 (io), 61 P21/RXD (io), 62 P22/TXD (io), 63 P23 (io), 64 P24 (io), 65 P25 (io), 66 P26 (io), 67 P27 (io), 68 P10/TMOW (io), 69 P11 (io), 70 P12 (io), 71 P13 (io), 72 P14/PWM (io), 73 P15/~{IRQ1} (io), 74 P16/~{IRQ2} (io), 75 P17/~{IRQ3}/TRGV (io), 76 AVCC (power), 77 PB7/AN7 (in), 78 PB6/AN6 (in), 79 PB5/AN5 (in), 80 PB4/AN4 (in)

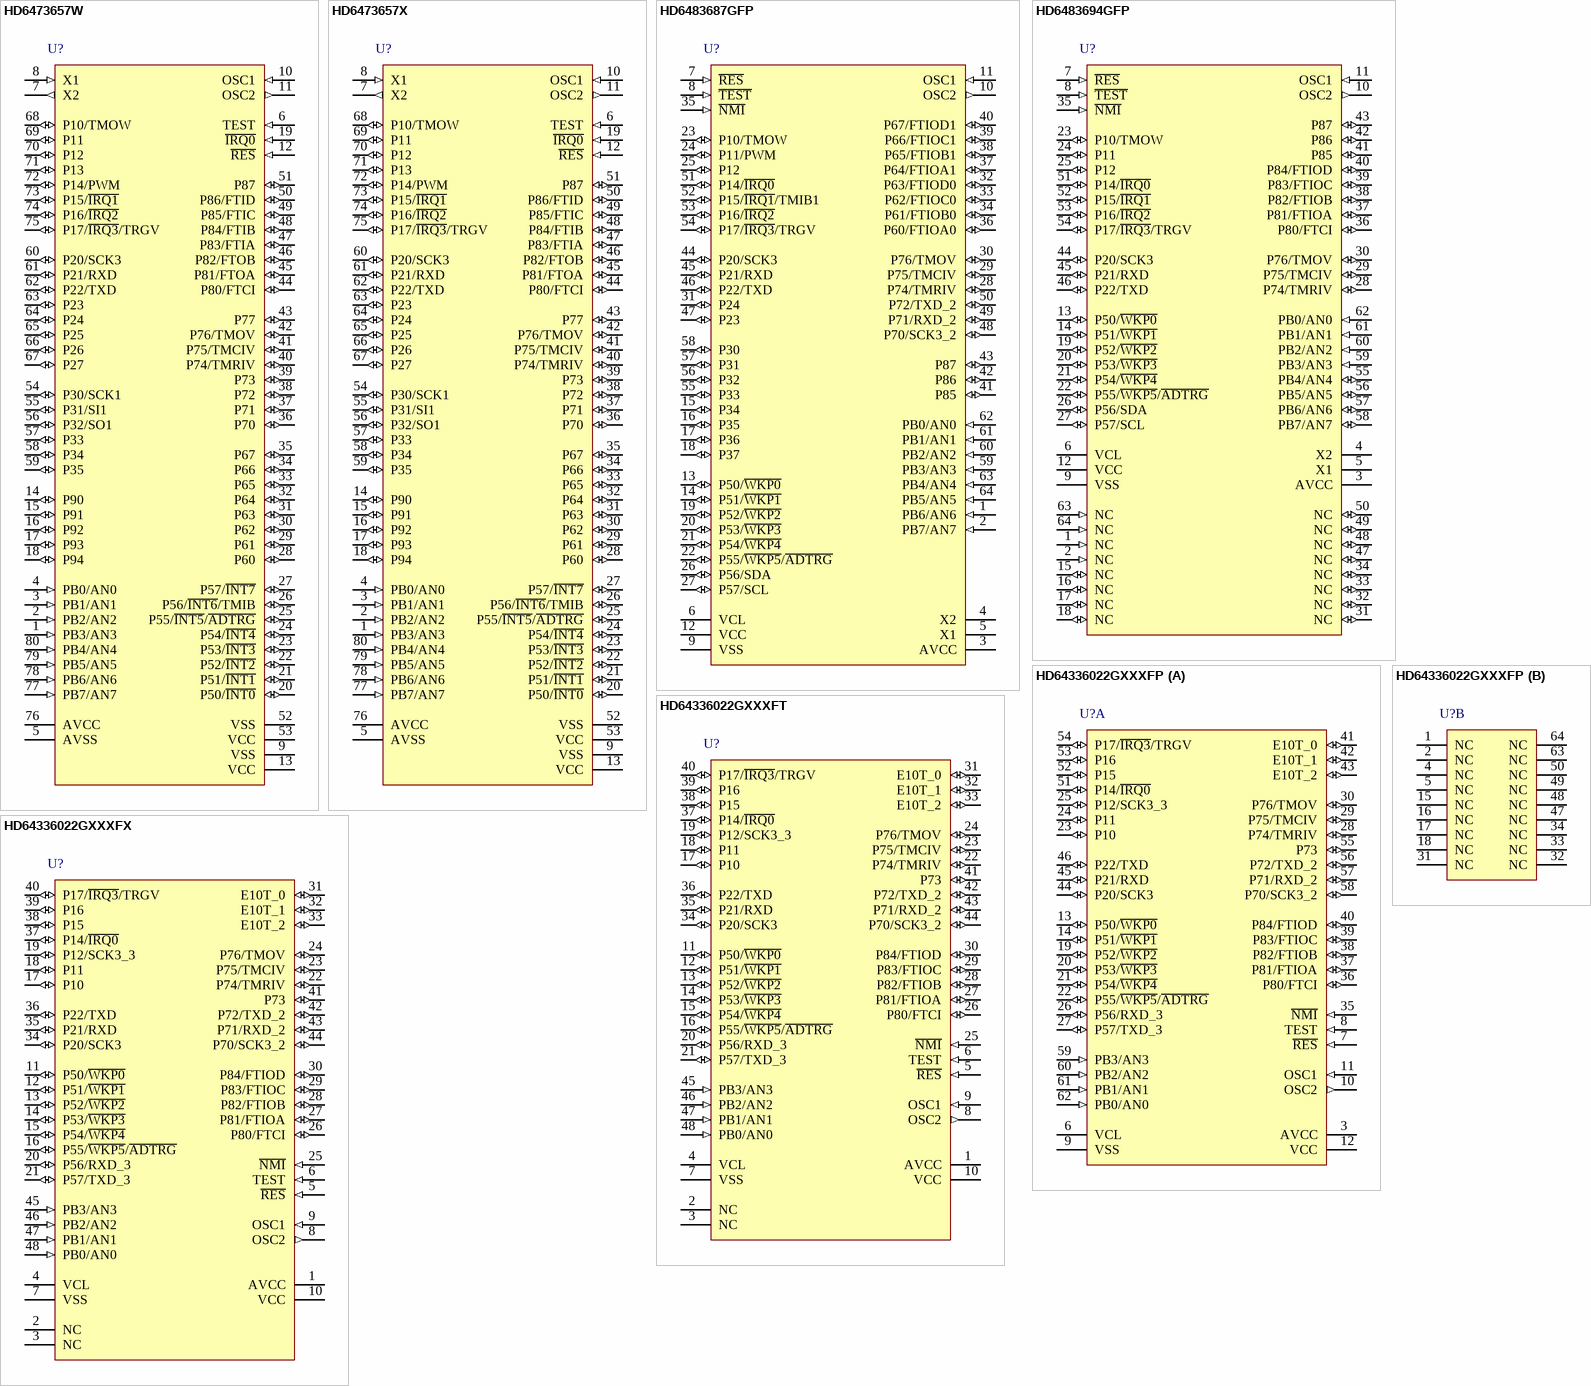
[diagram p67: symbols HD6473657W to HD64336022GXXXFX]

## HD6473657W
designator U?
H8 Family 8-bit MCU, H8/300L, 60K ROM, 2K RAM, 2.5MHz, 2.2 to 5.5V, 80-Pin QFP; Published: 28-Aug-2009; DatasheetVersion: Oct-1997; PackageVersion: Sep-2005; PackageReference: PTQP0080KC-A; Publisher: Altium Limited; PackageDescription: 80-Pin Plastic Thin Quad Flat Pack, 12 x 12 x 1.0 mm Body, 0.5 mm Pitch; Code_JEITA: P-TQFP80-12x12-0.50; ComponentLink1Description: Manufacturer Link; ComponentLink1URL: http://sg.renesas.com/fmwk.jsp?cnt=h8_family_landing.jsp&fp=/products/mpumcu/h8_family/; ComponentLink2Description: Datasheet; ComponentLink2URL: http://documentation.renesas.com/eng/products/mpumcu/e602134_h83657.pdf; ComponentLink3Description: Packaging Specification; ComponentLink3URL: http://sg.renesas.com/media/products/common_info/package/pdf/ic/code/ptqp0080kc_a.pdf
footprint PTQP0080KC-A_N (Thin QFP, 80-Leads, Body 12x12mm, Pitch 0.5mm, IPC Medium Density)
footprint PTQP0080KC-A_L (Thin QFP, 80-Leads, Body 12x12mm, Pitch 0.5mm, IPC High Density)
footprint PTQP0080KC-A_M (Thin QFP, 80-Leads, Body 12x12mm, Pitch 0.5mm, IPC Low Density)
pins: 1 PB3/AN3 (in), 2 PB2/AN2 (in), 3 PB1/AN1 (in), 4 PB0/AN0 (in), 5 AVSS (power), 6 TEST (in), 7 X2 (out), 8 X1 (in), 9 VSS (power), 10 OSC1 (in), 11 OSC2 (out), 12 ~{RES} (in), 13 VCC (power), 14 P90 (io), 15 P91 (io), 16 P92 (io), 17 P93 (io), 18 P94 (io), 19 ~{IRQ0} (in), 20 P50/~{INT0} (io), 21 P51/~{INT1} (io), 22 P52/~{INT2} (io), 23 P53/~{INT3} (io), 24 P54/~{INT4} (io), 25 P55/~{INT5}/~{ADTRG} (io), 26 P56/~{INT6}/TMIB (io), 27 P57/~{INT7} (io), 28 P60 (io), 29 P61 (io), 30 P62 (io), 31 P63 (io), 32 P64 (io), 33 P65 (io), 34 P66 (io), 35 P67 (io), 36 P70 (io), 37 P71 (io), 38 P72 (io), 39 P73 (io), 40 P74/TMRIV (io), 41 P75/TMCIV (io), 42 P76/TMOV (io), 43 P77 (io), 44 P80/FTCI (io), 45 P81/FTOA (io), 46 P82/FTOB (io), 47 P83/FTIA (io), 48 P84/FTIB (io), 49 P85/FTIC (io), 50 P86/FTID (io), 51 P87 (io), 52 VSS (power), 53 VCC (power), 54 P30/SCK1 (io), 55 P31/SI1 (io), 56 P32/SO1 (io), 57 P33 (io), 58 P34 (io), 59 P35 (io), 60 P20/SCK3 (io), 61 P21/RXD (io), 62 P22/TXD (io), 63 P23 (io), 64 P24 (io), 65 P25 (io), 66 P26 (io), 67 P27 (io), 68 P10/TMOW (io), 69 P11 (io), 70 P12 (io), 71 P13 (io), 72 P14/PWM (io), 73 P15/~{IRQ1} (io), 74 P16/~{IRQ2} (io), 75 P17/~{IRQ3}/TRGV (io), 76 AVCC (power), 77 PB7/AN7 (in), 78 PB6/AN6 (in), 79 PB5/AN5 (in), 80 PB4/AN4 (in)

## HD6473657X
designator U?
H8 Family 8-bit MCU, H8/300L, 60K ROM, 2K RAM, 2.5MHz, 2.2 to 5.5V, 80-Pin QFP; Published: 28-Aug-2009; DatasheetVersion: Oct-1997; PackageVersion: Sep-2005; PackageReference: PTQP0080JA-B; Publisher: Altium Limited; PackageDescription: 80-Pin Plastic Thin Quad Flat Pack, 14 x 14 x 1.0 mm Body, 0.65 mm Pitch; Code_JEITA: P-TQFP80-14x14-0.65; ComponentLink1Description: Manufacturer Link; ComponentLink1URL: http://sg.renesas.com/fmwk.jsp?cnt=h8_family_landing.jsp&fp=/products/mpumcu/h8_family/; ComponentLink2Description: Datasheet; ComponentLink2URL: http://documentation.renesas.com/eng/products/mpumcu/e602134_h83657.pdf; ComponentLink3Description: Packaging Specification; ComponentLink3URL: http://sg.renesas.com/media/products/common_info/package/pdf/ic/code/ptqp0080ja_b.pdf
footprint PTQP0080JA-B_N (Thin QFP, 80-Leads, Body 14 x 14mm, Pitch 0.65mm, IPC Medium Density)
footprint PTQP0080JA-B_L (Thin QFP, 80-Leads, Body 14 x 14mm, Pitch 0.65mm, IPC High Density)
footprint PTQP0080JA-B_M (Thin QFP, 80-Leads, Body 14 x 14mm, Pitch 0.65mm, IPC Low Density)
pins: 1 PB3/AN3 (in), 2 PB2/AN2 (in), 3 PB1/AN1 (in), 4 PB0/AN0 (in), 5 AVSS (power), 6 TEST (in), 7 X2 (out), 8 X1 (in), 9 VSS (power), 10 OSC1 (in), 11 OSC2 (out), 12 ~{RES} (in), 13 VCC (power), 14 P90 (io), 15 P91 (io), 16 P92 (io), 17 P93 (io), 18 P94 (io), 19 ~{IRQ0} (in), 20 P50/~{INT0} (io), 21 P51/~{INT1} (io), 22 P52/~{INT2} (io), 23 P53/~{INT3} (io), 24 P54/~{INT4} (io), 25 P55/~{INT5}/~{ADTRG} (io), 26 P56/~{INT6}/TMIB (io), 27 P57/~{INT7} (io), 28 P60 (io), 29 P61 (io), 30 P62 (io), 31 P63 (io), 32 P64 (io), 33 P65 (io), 34 P66 (io), 35 P67 (io), 36 P70 (io), 37 P71 (io), 38 P72 (io), 39 P73 (io), 40 P74/TMRIV (io), 41 P75/TMCIV (io), 42 P76/TMOV (io), 43 P77 (io), 44 P80/FTCI (io), 45 P81/FTOA (io), 46 P82/FTOB (io), 47 P83/FTIA (io), 48 P84/FTIB (io), 49 P85/FTIC (io), 50 P86/FTID (io), 51 P87 (io), 52 VSS (power), 53 VCC (power), 54 P30/SCK1 (io), 55 P31/SI1 (io), 56 P32/SO1 (io), 57 P33 (io), 58 P34 (io), 59 P35 (io), 60 P20/SCK3 (io), 61 P21/RXD (io), 62 P22/TXD (io), 63 P23 (io), 64 P24 (io), 65 P25 (io), 66 P26 (io), 67 P27 (io), 68 P10/TMOW (io), 69 P11 (io), 70 P12 (io), 71 P13 (io), 72 P14/PWM (io), 73 P15/~{IRQ1} (io), 74 P16/~{IRQ2} (io), 75 P17/~{IRQ3}/TRGV (io), 76 AVCC (power), 77 PB7/AN7 (in), 78 PB6/AN6 (in), 79 PB5/AN5 (in), 80 PB4/AN4 (in)

## HD6483687GFP
designator U?
H8 Family 32/16-bit CISC, H8/300H Tiny, 56K ROM, 3K RAM, 1 to 10MHz, 2.7 to 5.5V, 64-Pin QFP; Published: 28-Aug-2009; DatasheetVersion: Rev.5.00, Nov-2005; PackageVersion: Sep-2005; PackageReference: PLQP0064KC-A; Publisher: Altium Limited; PackageDescription: 64-Pin Plastic Low Profile QFP, 10 x 10 x 1.45 mm Body, 0.5 mm Pitch; Code_JEITA: P-LQFP64-10x10-0.50; Code_IPC: SQFP50P1200X1200-64; ComponentLink1Description: Manufacturer Link; ComponentLink1URL: http://sg.renesas.com/fmwk.jsp?cnt=h8_family_landing.jsp&fp=/products/mpumcu/h8_family/; ComponentLink2Description: Datasheet; ComponentLink2URL: http://documentation.renesas.com/eng/products/mpumcu/rej09b0027_h83687.pdf; ComponentLink3Description: Packaging Specification; ComponentLink3URL: http://sg.renesas.com/media/products/common_info/package/pdf/ic/code/plqp0064kc_a.pdf
footprint PLQP0064KC-A_N (Shrink QFP, 64-Leads, Body 10x10mm, Pitch 0.5mm, IPC Medium Density)
footprint PLQP0064KC-A_L (Shrink QFP, 64-Leads, Body 10x10mm, Pitch 0.5mm, IPC High Density)
footprint PLQP0064KC-A_M (Shrink QFP, 64-Leads, Body 10x10mm, Pitch 0.5mm, IPC Low Density)
pins: 1 PB6/AN6 (in), 2 PB7/AN7 (in), 3 AVCC (power), 4 X2, 5 X1, 6 VCL (power), 7 ~{RES} (in), 8 ~{TEST} (in), 9 VSS (power), 10 OSC2 (out), 11 OSC1 (in), 12 VCC (power), 13 P50/~{WKP0} (io), 14 P51/~{WKP1} (io), 15 P34 (io), 16 P35 (io), 17 P36 (io), 18 P37 (io), 19 P52/~{WKP2} (io), 20 P53/~{WKP3} (io), 21 P54/~{WKP4} (io), 22 P55/~{WKP5}/~{ADTRG} (io), 23 P10/TMOW (io), 24 P11/PWM (io), 25 P12 (io), 26 P56/SDA (io), 27 P57/SCL (io), 28 P74/TMRIV (io), 29 P75/TMCIV (io), 30 P76/TMOV (io), 31 P24 (io), 32 P63/FTIOD0 (io), 33 P62/FTIOC0 (io), 34 P61/FTIOB0 (io), 35 ~{NMI} (in), 36 P60/FTIOA0 (io), 37 P64/FTIOA1 (io), 38 P65/FTIOB1 (io), 39 P66/FTIOC1 (io), 40 P67/FTIOD1 (io), 41 P85 (io), 42 P86 (io), 43 P87 (io), 44 P20/SCK3 (io), 45 P21/RXD (io), 46 P22/TXD (io), 47 P23 (io), 48 P70/SCK3_2 (io), 49 P71/RXD_2 (io), 50 P72/TXD_2 (io), 51 P14/~{IRQ0} (io), 52 P15/~{IRQ1}/TMIB1 (io), 53 P16/~{IRQ2} (io), 54 P17/~{IRQ3}/TRGV (io), 55 P33 (io), 56 P32 (io), 57 P31 (io), 58 P30 (io), 59 PB3/AN3 (in), 60 PB2/AN2 (in), 61 PB1/AN1 (in), 62 PB0/AN0 (in), 63 PB4/AN4 (in), 64 PB5/AN5 (in)

## HD6483694GFP
designator U?
H8 Family 32/16-bit CISC, H8/300H Tiny, 32K ROM, 1K RAM, 1 to 10MHz, 2.7 to 5.5V, 64-Pin QFP; Published: 28-Aug-2009; DatasheetVersion: Rev.5.00, Nov-2005; PackageVersion: Sep-2005; PackageReference: PLQP0064KC-A; Publisher: Altium Limited; PackageDescription: 64-Pin Plastic Low Profile QFP, 10 x 10 x 1.45 mm Body, 0.5 mm Pitch; Code_JEITA: P-LQFP64-10x10-0.50; Code_IPC: SQFP50P1200X1200-64; ComponentLink1Description: Manufacturer Link; ComponentLink1URL: http://sg.renesas.com/fmwk.jsp?cnt=h8_family_landing.jsp&fp=/products/mpumcu/h8_family/; ComponentLink2Description: Datasheet; ComponentLink2URL: http://documentation.renesas.com/eng/products/mpumcu/rej09b0028_h83694.pdf; ComponentLink3Description: Packaging Specification; ComponentLink3URL: http://sg.renesas.com/media/products/common_info/package/pdf/ic/code/plqp0064kc_a.pdf
footprint PLQP0064KC-A_N (Shrink QFP, 64-Leads, Body 10x10mm, Pitch 0.5mm, IPC Medium Density)
footprint PLQP0064KC-A_L (Shrink QFP, 64-Leads, Body 10x10mm, Pitch 0.5mm, IPC High Density)
footprint PLQP0064KC-A_M (Shrink QFP, 64-Leads, Body 10x10mm, Pitch 0.5mm, IPC Low Density)
pins: 1 NC (in), 2 NC (in), 3 AVCC (power), 4 X2, 5 X1, 6 VCL (power), 7 ~{RES} (in), 8 ~{TEST} (in), 9 VSS (power), 10 OSC2 (out), 11 OSC1 (in), 12 VCC (power), 13 P50/~{WKP0} (io), 14 P51/~{WKP1} (io), 15 NC (io), 16 NC (io), 17 NC (io), 18 NC (io), 19 P52/~{WKP2} (io), 20 P53/~{WKP3} (io), 21 P54/~{WKP4} (io), 22 P55/~{WKP5}/~{ADTRG} (io), 23 P10/TMOW (io), 24 P11 (io), 25 P12 (io), 26 P56/SDA (io), 27 P57/SCL (io), 28 P74/TMRIV (io), 29 P75/TMCIV (io), 30 P76/TMOV (io), 31 NC (io), 32 NC (io), 33 NC (io), 34 NC (io), 35 ~{NMI} (in), 36 P80/FTCI (io), 37 P81/FTIOA (io), 38 P82/FTIOB (io), 39 P83/FTIOC (io), 40 P84/FTIOD (io), 41 P85 (io), 42 P86 (io), 43 P87 (io), 44 P20/SCK3 (io), 45 P21/RXD (io), 46 P22/TXD (io), 47 NC (io), 48 NC (io), 49 NC (io), 50 NC (io), 51 P14/~{IRQ0} (io), 52 P15/~{IRQ1} (io), 53 P16/~{IRQ2} (io), 54 P17/~{IRQ3}/TRGV (io), 55 PB4/AN4 (io), 56 PB5/AN5 (io), 57 PB6/AN6 (io), 58 PB7/AN7 (io), 59 PB3/AN3 (in), 60 PB2/AN2 (in), 61 PB1/AN1 (in), 62 PB0/AN0 (in), 63 NC (in), 64 NC (in)

## HD64336022GXXXFP
designator U?
H8 Family 32/16-bit CISC, H8/300H Tiny, 16K ROM, 512 RAM, 1 to 10MHz, 2.7 to 5.5V, 64-Pin QFP; Published: 28-Aug-2009; DatasheetVersion: Rev.4.00, Sep-2005; PackageVersion: Sep-2005; PackageReference: PLQP0064KC-A; Publisher: Altium Limited; PackageDescription: 64-Pin Plastic Low Profile QFP, 10 x 10 x 1.45 mm Body, 0.5 mm Pitch; Code_JEITA: P-LQFP64-10x10-0.50; Code_IPC: SQFP50P1200X1200-64; ComponentLink1Description: Manufacturer Link; ComponentLink1URL: http://sg.renesas.com/fmwk.jsp?cnt=h8_family_landing.jsp&fp=/products/mpumcu/h8_family/; ComponentLink2Description: Datasheet; ComponentLink2URL: http://documentation.renesas.com/eng/products/mpumcu/rej09b0025_h836024.pdf; ComponentLink3Description: Packaging Specification; ComponentLink3URL: http://sg.renesas.com/media/products/common_info/package/pdf/ic/code/plqp0064kc_a.pdf
footprint PLQP0064KC-A_N (Shrink QFP, 64-Leads, Body 10x10mm, Pitch 0.5mm, IPC Medium Density)
footprint PLQP0064KC-A_L (Shrink QFP, 64-Leads, Body 10x10mm, Pitch 0.5mm, IPC High Density)
footprint PLQP0064KC-A_M (Shrink QFP, 64-Leads, Body 10x10mm, Pitch 0.5mm, IPC Low Density)
part A pins: 3 AVCC (power), 6 VCL (power), 7 ~{RES} (in), 8 TEST (in), 9 VSS (power), 10 OSC2 (out), 11 OSC1 (in), 12 VCC (power), 13 P50/~{WKP0} (io), 14 P51/~{WKP1} (io), 19 P52/~{WKP2} (io), 20 P53/~{WKP3} (io), 21 P54/~{WKP4} (io), 22 P55/~{WKP5}/~{ADTRG} (io), 23 P10 (io), 24 P11 (io), 25 P12/SCK3_3 (io), 26 P56/RXD_3 (io), 27 P57/TXD_3 (io), 28 P74/TMRIV (io), 29 P75/TMCIV (io), 30 P76/TMOV (io), 35 ~{NMI} (in), 36 P80/FTCI (io), 37 P81/FTIOA (io), 38 P82/FTIOB (io), 39 P83/FTIOC (io), 40 P84/FTIOD (io), 41 E10T_0 (io), 42 E10T_1 (io), 43 E10T_2 (io), 44 P20/SCK3 (io), 45 P21/RXD (io), 46 P22/TXD (io), 51 P14/~{IRQ0} (io), 52 P15 (io), 53 P16 (io), 54 P17/~{IRQ3}/TRGV (io), 55 P73 (io), 56 P72/TXD_2 (io), 57 P71/RXD_2 (io), 58 P70/SCK3_2 (io), 59 PB3/AN3 (in), 60 PB2/AN2 (in), 61 PB1/AN1 (in), 62 PB0/AN0 (in)
part B pins: 1 NC, 2 NC, 4 NC, 5 NC, 15 NC, 16 NC, 17 NC, 18 NC, 31 NC, 32 NC, 33 NC, 34 NC, 47 NC, 48 NC, 49 NC, 50 NC, 63 NC, 64 NC

## HD64336022GXXXFT
designator U?
H8 Family 32/16-bit CISC, H8/300H Tiny, 16K ROM, 512 RAM, 1 to 10MHz, 2.7 to 5.5V, 48-Pin QFN; Published: 28-Aug-2009; DatasheetVersion: Rev.4.00, Sep-2005; PackageVersion: Sep-2005; PackageReference: PVQN0048KA-A; Publisher: Altium Limited; PackageDescription: 48-Pin Plastic Very Thin QFN, 7 x 7 X 0.9 mm Body, 0.5 mm Pitch; Code_JEITA: P-VQFN48-7x7-0.50; ComponentLink1Description: Manufacturer Link; ComponentLink1URL: http://sg.renesas.com/fmwk.jsp?cnt=h8_family_landing.jsp&fp=/products/mpumcu/h8_family/; ComponentLink2Description: Datasheet; ComponentLink2URL: http://documentation.renesas.com/eng/products/mpumcu/rej09b0025_h836024.pdf; ComponentLink3Description: Packaging Specification; ComponentLink3URL: http://sg.renesas.com/media/products/common_info/package/pdf/ic/code/pvqn0048ka_a.pdf
footprint PVQN0048KA-A_N (QFN, 48-Leads, Body 7x7mm, Pitch 0.5mm, IPC Medium Density)
footprint PVQN0048KA-A_L (QFN, 48-Leads, Body 7x7mm, Pitch 0.5mm, IPC High Density)
footprint PVQN0048KA-A_M (QFN, 48-Leads, Body 7x7mm, Pitch 0.5mm, IPC Low Density)
pins: 1 AVCC (power), 2 NC, 3 NC, 4 VCL (power), 5 ~{RES} (in), 6 TEST (in), 7 VSS (power), 8 OSC2 (out), 9 OSC1 (in), 10 VCC (power), 11 P50/~{WKP0} (io), 12 P51/~{WKP1} (io), 13 P52/~{WKP2} (io), 14 P53/~{WKP3} (io), 15 P54/~{WKP4} (io), 16 P55/~{WKP5}/~{ADTRG} (io), 17 P10 (io), 18 P11 (io), 19 P12/SCK3_3 (io), 20 P56/RXD_3 (io), 21 P57/TXD_3 (io), 22 P74/TMRIV (io), 23 P75/TMCIV (io), 24 P76/TMOV (io), 25 ~{NMI} (in), 26 P80/FTCI (io), 27 P81/FTIOA (io), 28 P82/FTIOB (io), 29 P83/FTIOC (io), 30 P84/FTIOD (io), 31 E10T_0 (io), 32 E10T_1 (io), 33 E10T_2 (io), 34 P20/SCK3 (io), 35 P21/RXD (io), 36 P22/TXD (io), 37 P14/~{IRQ0} (io), 38 P15 (io), 39 P16 (io), 40 P17/~{IRQ3}/TRGV (io), 41 P73 (io), 42 P72/TXD_2 (io), 43 P71/RXD_2 (io), 44 P70/SCK3_2 (io), 45 PB3/AN3 (in), 46 PB2/AN2 (in), 47 PB1/AN1 (in), 48 PB0/AN0 (in)

## HD64336022GXXXFX
designator U?
H8 Family 32/16-bit CISC, H8/300H Tiny, 16K ROM, 512 RAM, 1 to 10MHz, 2.7 to 5.5V, 48-Pin QFP; Published: 28-Aug-2009; DatasheetVersion: Rev.4.00, Sep-2005; PackageVersion: Sep-2005; PackageReference: PLQP0048JA-A; Publisher: Altium Limited; PackageDescription: 48-Pin Plastic Low Profile QFP, 10 x 10 x 1.45 mm Body, 0.65 mm Pitch; Code_JEITA: P-LQFP48-10x10-0.65; ComponentLink1Description: Manufacturer Link; ComponentLink1URL: http://sg.renesas.com/fmwk.jsp?cnt=h8_family_landing.jsp&fp=/products/mpumcu/h8_family/; ComponentLink2Description: Datasheet; ComponentLink2URL: http://documentation.renesas.com/eng/products/mpumcu/rej09b0025_h836024.pdf; ComponentLink3Description: Packaging Specification; ComponentLink3URL: http://sg.renesas.com/media/products/common_info/package/pdf/ic/code/plqp0048ja_a.pdf
footprint PLQP0048JA-A_N (QFP, 48-Leads, Body 10x10mm, Pitch 0.65mm, IPC Medium Density)
footprint PLQP0048JA-A_L (QFP, 48-Leads, Body 10x10mm, Pitch 0.65mm, IPC High Density)
footprint PLQP0048JA-A_M (QFP, 48-Leads, Body 10x10mm, Pitch 0.65mm, IPC Low Density)
pins: 1 AVCC (power), 2 NC, 3 NC, 4 VCL (power), 5 ~{RES} (in), 6 TEST (in), 7 VSS (power), 8 OSC2 (out), 9 OSC1 (in), 10 VCC (power), 11 P50/~{WKP0} (io), 12 P51/~{WKP1} (io), 13 P52/~{WKP2} (io), 14 P53/~{WKP3} (io), 15 P54/~{WKP4} (io), 16 P55/~{WKP5}/~{ADTRG} (io), 17 P10 (io), 18 P11 (io), 19 P12/SCK3_3 (io), 20 P56/RXD_3 (io), 21 P57/TXD_3 (io), 22 P74/TMRIV (io), 23 P75/TMCIV (io), 24 P76/TMOV (io), 25 ~{NMI} (in), 26 P80/FTCI (io), 27 P81/FTIOA (io), 28 P82/FTIOB (io), 29 P83/FTIOC (io), 30 P84/FTIOD (io), 31 E10T_0 (io), 32 E10T_1 (io), 33 E10T_2 (io), 34 P20/SCK3 (io), 35 P21/RXD (io), 36 P22/TXD (io), 37 P14/~{IRQ0} (io), 38 P15 (io), 39 P16 (io), 40 P17/~{IRQ3}/TRGV (io), 41 P73 (io), 42 P72/TXD_2 (io), 43 P71/RXD_2 (io), 44 P70/SCK3_2 (io), 45 PB3/AN3 (in), 46 PB2/AN2 (in), 47 PB1/AN1 (in), 48 PB0/AN0 (in)

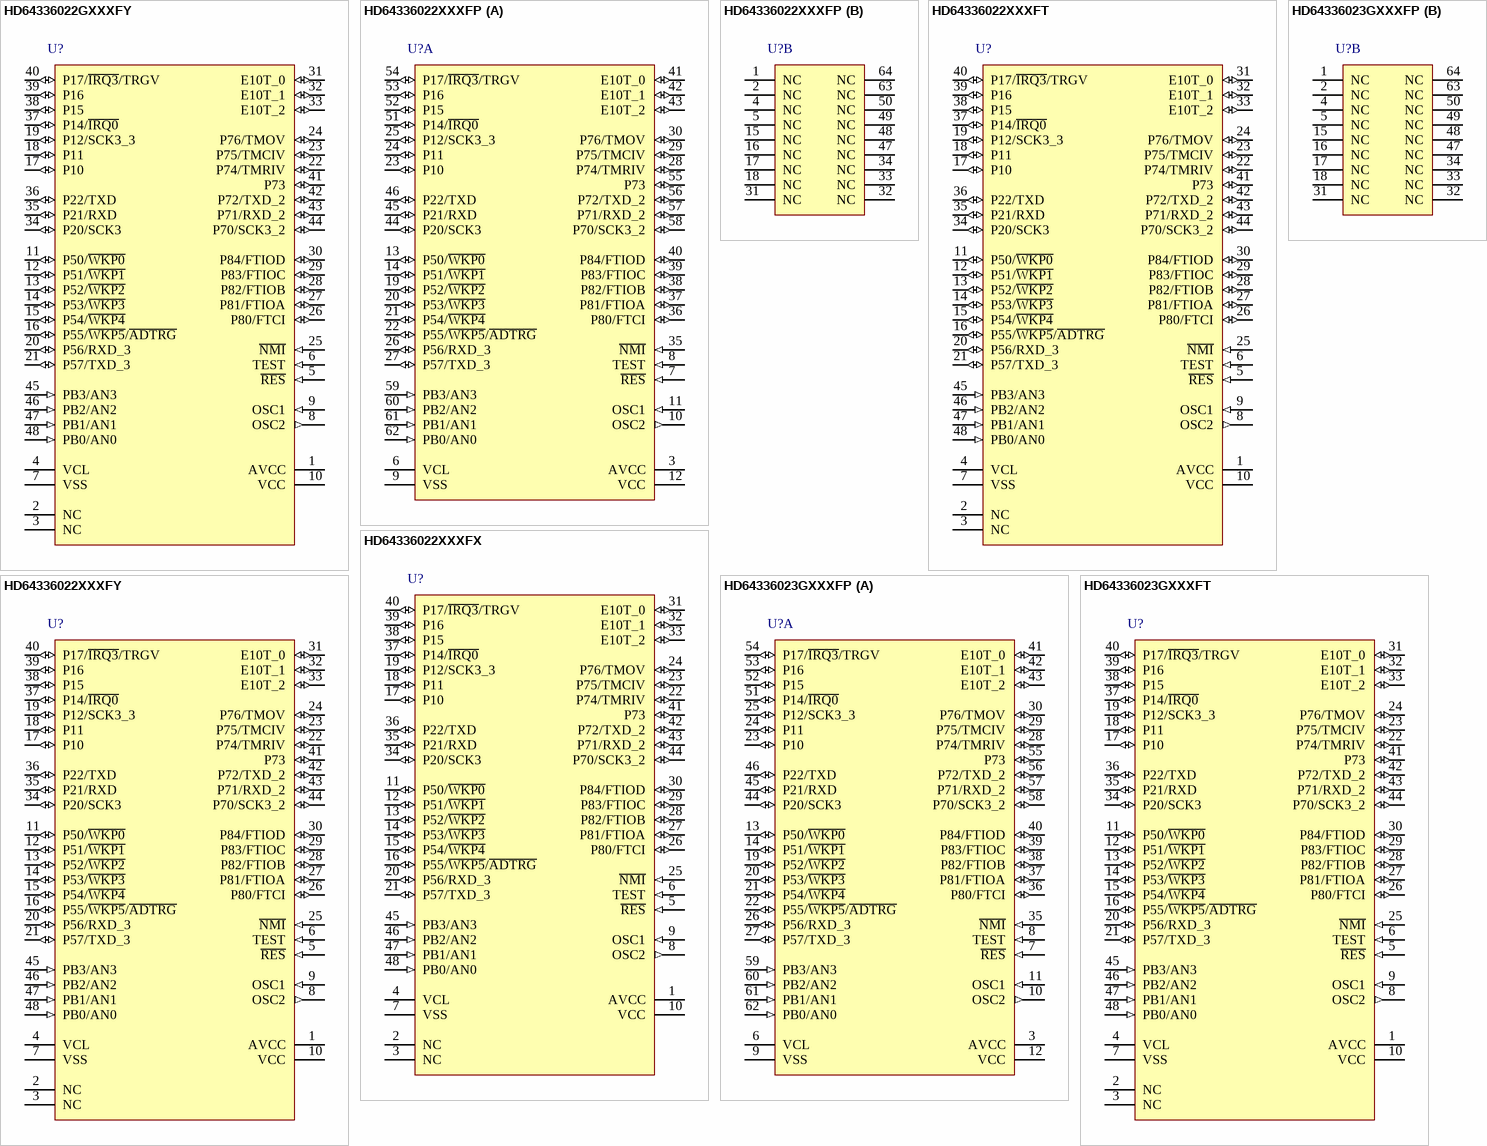
[diagram p68: symbols HD64336022GXXXFY to HD64336023GXXXFT]

## HD64336022GXXXFY
designator U?
H8 Family 32/16-bit CISC, H8/300H Tiny, 16K ROM, 512 RAM, 1 to 10MHz, 2.7 to 5.5V, 48-Pin QFP; Published: 28-Aug-2009; DatasheetVersion: Rev.4.00, Sep-2005; PackageVersion: Sep-2005; PackageReference: PLQP0048KC-A; Publisher: Altium Limited; PackageDescription: 48-Pin Plastic Low Profile QFP, 7 x 7 x 1.4 mm Body, 0.5 mm Pitch; Code_JEITA: P-LQFP48-7x7-0.50; Code_IPC: SQFP50P900X900-48; ComponentLink1Description: Manufacturer Link; ComponentLink1URL: http://sg.renesas.com/fmwk.jsp?cnt=h8_family_landing.jsp&fp=/products/mpumcu/h8_family/; ComponentLink2Description: Datasheet; ComponentLink2URL: http://documentation.renesas.com/eng/products/mpumcu/rej09b0025_h836024.pdf; ComponentLink3Description: Packaging Specification; ComponentLink3URL: http://sg.renesas.com/media/products/common_info/package/pdf/ic/code/plqp0048kc_a.pdf
footprint PLQP0048KC-A_N (Shrink QFP, 48-Leads, Body 7x7mm, Pitch 0.5mm, IPC Medium Density)
footprint PLQP0048KC-A_L (Shrink QFP, 48-Leads, Body 7x7mm, Pitch 0.5mm, IPC High Density)
footprint PLQP0048KC-A_M (Shrink QFP, 48-Leads, Body 7x7mm, Pitch 0.5mm, IPC Low Density)
pins: 1 AVCC (power), 2 NC, 3 NC, 4 VCL (power), 5 ~{RES} (in), 6 TEST (in), 7 VSS (power), 8 OSC2 (out), 9 OSC1 (in), 10 VCC (power), 11 P50/~{WKP0} (io), 12 P51/~{WKP1} (io), 13 P52/~{WKP2} (io), 14 P53/~{WKP3} (io), 15 P54/~{WKP4} (io), 16 P55/~{WKP5}/~{ADTRG} (io), 17 P10 (io), 18 P11 (io), 19 P12/SCK3_3 (io), 20 P56/RXD_3 (io), 21 P57/TXD_3 (io), 22 P74/TMRIV (io), 23 P75/TMCIV (io), 24 P76/TMOV (io), 25 ~{NMI} (in), 26 P80/FTCI (io), 27 P81/FTIOA (io), 28 P82/FTIOB (io), 29 P83/FTIOC (io), 30 P84/FTIOD (io), 31 E10T_0 (io), 32 E10T_1 (io), 33 E10T_2 (io), 34 P20/SCK3 (io), 35 P21/RXD (io), 36 P22/TXD (io), 37 P14/~{IRQ0} (io), 38 P15 (io), 39 P16 (io), 40 P17/~{IRQ3}/TRGV (io), 41 P73 (io), 42 P72/TXD_2 (io), 43 P71/RXD_2 (io), 44 P70/SCK3_2 (io), 45 PB3/AN3 (in), 46 PB2/AN2 (in), 47 PB1/AN1 (in), 48 PB0/AN0 (in)

## HD64336022XXXFP
designator U?
H8 Family 32/16-bit CISC, H8/300H Tiny, 16K ROM, 512 RAM, 1 to 10MHz, 2.7 to 5.5V, 64-Pin QFP; Published: 28-Aug-2009; DatasheetVersion: Rev.4.00, Sep-2005; PackageVersion: Sep-2005; PackageReference: PLQP0064KC-A; Publisher: Altium Limited; PackageDescription: 64-Pin Plastic Low Profile QFP, 10 x 10 x 1.45 mm Body, 0.5 mm Pitch; Code_JEITA: P-LQFP64-10x10-0.50; Code_IPC: SQFP50P1200X1200-64; ComponentLink1Description: Manufacturer Link; ComponentLink1URL: http://sg.renesas.com/fmwk.jsp?cnt=h8_family_landing.jsp&fp=/products/mpumcu/h8_family/; ComponentLink2Description: Datasheet; ComponentLink2URL: http://documentation.renesas.com/eng/products/mpumcu/rej09b0025_h836024.pdf; ComponentLink3Description: Packaging Specification; ComponentLink3URL: http://sg.renesas.com/media/products/common_info/package/pdf/ic/code/plqp0064kc_a.pdf
footprint PLQP0064KC-A_N (Shrink QFP, 64-Leads, Body 10x10mm, Pitch 0.5mm, IPC Medium Density)
footprint PLQP0064KC-A_L (Shrink QFP, 64-Leads, Body 10x10mm, Pitch 0.5mm, IPC High Density)
footprint PLQP0064KC-A_M (Shrink QFP, 64-Leads, Body 10x10mm, Pitch 0.5mm, IPC Low Density)
part A pins: 3 AVCC (power), 6 VCL (power), 7 ~{RES} (in), 8 TEST (in), 9 VSS (power), 10 OSC2 (out), 11 OSC1 (in), 12 VCC (power), 13 P50/~{WKP0} (io), 14 P51/~{WKP1} (io), 19 P52/~{WKP2} (io), 20 P53/~{WKP3} (io), 21 P54/~{WKP4} (io), 22 P55/~{WKP5}/~{ADTRG} (io), 23 P10 (io), 24 P11 (io), 25 P12/SCK3_3 (io), 26 P56/RXD_3 (io), 27 P57/TXD_3 (io), 28 P74/TMRIV (io), 29 P75/TMCIV (io), 30 P76/TMOV (io), 35 ~{NMI} (in), 36 P80/FTCI (io), 37 P81/FTIOA (io), 38 P82/FTIOB (io), 39 P83/FTIOC (io), 40 P84/FTIOD (io), 41 E10T_0 (io), 42 E10T_1 (io), 43 E10T_2 (io), 44 P20/SCK3 (io), 45 P21/RXD (io), 46 P22/TXD (io), 51 P14/~{IRQ0} (io), 52 P15 (io), 53 P16 (io), 54 P17/~{IRQ3}/TRGV (io), 55 P73 (io), 56 P72/TXD_2 (io), 57 P71/RXD_2 (io), 58 P70/SCK3_2 (io), 59 PB3/AN3 (in), 60 PB2/AN2 (in), 61 PB1/AN1 (in), 62 PB0/AN0 (in)
part B pins: 1 NC, 2 NC, 4 NC, 5 NC, 15 NC, 16 NC, 17 NC, 18 NC, 31 NC, 32 NC, 33 NC, 34 NC, 47 NC, 48 NC, 49 NC, 50 NC, 63 NC, 64 NC

## HD64336022XXXFT
designator U?
H8 Family 32/16-bit CISC, H8/300H Tiny, 16K ROM, 512 RAM, 1 to 10MHz, 2.7 to 5.5V, 48-Pin QFN; Published: 28-Aug-2009; DatasheetVersion: Rev.4.00, Sep-2005; PackageVersion: Sep-2005; PackageReference: PVQN0048KA-A; Publisher: Altium Limited; PackageDescription: 48-Pin Plastic Very Thin QFN, 7 x 7 X 0.9 mm Body, 0.5 mm Pitch; Code_JEITA: P-VQFN48-7x7-0.50; ComponentLink1Description: Manufacturer Link; ComponentLink1URL: http://sg.renesas.com/fmwk.jsp?cnt=h8_family_landing.jsp&fp=/products/mpumcu/h8_family/; ComponentLink2Description: Datasheet; ComponentLink2URL: http://documentation.renesas.com/eng/products/mpumcu/rej09b0025_h836024.pdf; ComponentLink3Description: Packaging Specification; ComponentLink3URL: http://sg.renesas.com/media/products/common_info/package/pdf/ic/code/pvqn0048ka_a.pdf
footprint PVQN0048KA-A_N (QFN, 48-Leads, Body 7x7mm, Pitch 0.5mm, IPC Medium Density)
footprint PVQN0048KA-A_L (QFN, 48-Leads, Body 7x7mm, Pitch 0.5mm, IPC High Density)
footprint PVQN0048KA-A_M (QFN, 48-Leads, Body 7x7mm, Pitch 0.5mm, IPC Low Density)
pins: 1 AVCC (power), 2 NC, 3 NC, 4 VCL (power), 5 ~{RES} (in), 6 TEST (in), 7 VSS (power), 8 OSC2 (out), 9 OSC1 (in), 10 VCC (power), 11 P50/~{WKP0} (io), 12 P51/~{WKP1} (io), 13 P52/~{WKP2} (io), 14 P53/~{WKP3} (io), 15 P54/~{WKP4} (io), 16 P55/~{WKP5}/~{ADTRG} (io), 17 P10 (io), 18 P11 (io), 19 P12/SCK3_3 (io), 20 P56/RXD_3 (io), 21 P57/TXD_3 (io), 22 P74/TMRIV (io), 23 P75/TMCIV (io), 24 P76/TMOV (io), 25 ~{NMI} (in), 26 P80/FTCI (io), 27 P81/FTIOA (io), 28 P82/FTIOB (io), 29 P83/FTIOC (io), 30 P84/FTIOD (io), 31 E10T_0 (io), 32 E10T_1 (io), 33 E10T_2 (io), 34 P20/SCK3 (io), 35 P21/RXD (io), 36 P22/TXD (io), 37 P14/~{IRQ0} (io), 38 P15 (io), 39 P16 (io), 40 P17/~{IRQ3}/TRGV (io), 41 P73 (io), 42 P72/TXD_2 (io), 43 P71/RXD_2 (io), 44 P70/SCK3_2 (io), 45 PB3/AN3 (in), 46 PB2/AN2 (in), 47 PB1/AN1 (in), 48 PB0/AN0 (in)

## HD64336022XXXFX
designator U?
H8 Family 32/16-bit CISC, H8/300H Tiny, 16K ROM, 512 RAM, 1 to 10MHz, 2.7 to 5.5V, 48-Pin QFP; Published: 28-Aug-2009; DatasheetVersion: Rev.4.00, Sep-2005; PackageVersion: Sep-2005; PackageReference: PLQP0048JA-A; Publisher: Altium Limited; PackageDescription: 48-Pin Plastic Low Profile QFP, 10 x 10 x 1.45 mm Body, 0.65 mm Pitch; Code_JEITA: P-LQFP48-10x10-0.65; ComponentLink1Description: Manufacturer Link; ComponentLink1URL: http://sg.renesas.com/fmwk.jsp?cnt=h8_family_landing.jsp&fp=/products/mpumcu/h8_family/; ComponentLink2Description: Datasheet; ComponentLink2URL: http://documentation.renesas.com/eng/products/mpumcu/rej09b0025_h836024.pdf; ComponentLink3Description: Packaging Specification; ComponentLink3URL: http://sg.renesas.com/media/products/common_info/package/pdf/ic/code/plqp0048ja_a.pdf
footprint PLQP0048JA-A_N (QFP, 48-Leads, Body 10x10mm, Pitch 0.65mm, IPC Medium Density)
footprint PLQP0048JA-A_L (QFP, 48-Leads, Body 10x10mm, Pitch 0.65mm, IPC High Density)
footprint PLQP0048JA-A_M (QFP, 48-Leads, Body 10x10mm, Pitch 0.65mm, IPC Low Density)
pins: 1 AVCC (power), 2 NC, 3 NC, 4 VCL (power), 5 ~{RES} (in), 6 TEST (in), 7 VSS (power), 8 OSC2 (out), 9 OSC1 (in), 10 VCC (power), 11 P50/~{WKP0} (io), 12 P51/~{WKP1} (io), 13 P52/~{WKP2} (io), 14 P53/~{WKP3} (io), 15 P54/~{WKP4} (io), 16 P55/~{WKP5}/~{ADTRG} (io), 17 P10 (io), 18 P11 (io), 19 P12/SCK3_3 (io), 20 P56/RXD_3 (io), 21 P57/TXD_3 (io), 22 P74/TMRIV (io), 23 P75/TMCIV (io), 24 P76/TMOV (io), 25 ~{NMI} (in), 26 P80/FTCI (io), 27 P81/FTIOA (io), 28 P82/FTIOB (io), 29 P83/FTIOC (io), 30 P84/FTIOD (io), 31 E10T_0 (io), 32 E10T_1 (io), 33 E10T_2 (io), 34 P20/SCK3 (io), 35 P21/RXD (io), 36 P22/TXD (io), 37 P14/~{IRQ0} (io), 38 P15 (io), 39 P16 (io), 40 P17/~{IRQ3}/TRGV (io), 41 P73 (io), 42 P72/TXD_2 (io), 43 P71/RXD_2 (io), 44 P70/SCK3_2 (io), 45 PB3/AN3 (in), 46 PB2/AN2 (in), 47 PB1/AN1 (in), 48 PB0/AN0 (in)

## HD64336022XXXFY
designator U?
H8 Family 32/16-bit CISC, H8/300H Tiny, 16K ROM, 512 RAM, 1 to 10MHz, 2.7 to 5.5V, 48-Pin QFP; Published: 28-Aug-2009; DatasheetVersion: Rev.4.00, Sep-2005; PackageVersion: Sep-2005; PackageReference: PLQP0048KC-A; Publisher: Altium Limited; PackageDescription: 48-Pin Plastic Low Profile QFP, 7 x 7 x 1.4 mm Body, 0.5 mm Pitch; Code_JEITA: P-LQFP48-7x7-0.50; Code_IPC: SQFP50P900X900-48; ComponentLink1Description: Manufacturer Link; ComponentLink1URL: http://sg.renesas.com/fmwk.jsp?cnt=h8_family_landing.jsp&fp=/products/mpumcu/h8_family/; ComponentLink2Description: Datasheet; ComponentLink2URL: http://documentation.renesas.com/eng/products/mpumcu/rej09b0025_h836024.pdf; ComponentLink3Description: Packaging Specification; ComponentLink3URL: http://sg.renesas.com/media/products/common_info/package/pdf/ic/code/plqp0048kc_a.pdf
footprint PLQP0048KC-A_N (Shrink QFP, 48-Leads, Body 7x7mm, Pitch 0.5mm, IPC Medium Density)
footprint PLQP0048KC-A_L (Shrink QFP, 48-Leads, Body 7x7mm, Pitch 0.5mm, IPC High Density)
footprint PLQP0048KC-A_M (Shrink QFP, 48-Leads, Body 7x7mm, Pitch 0.5mm, IPC Low Density)
pins: 1 AVCC (power), 2 NC, 3 NC, 4 VCL (power), 5 ~{RES} (in), 6 TEST (in), 7 VSS (power), 8 OSC2 (out), 9 OSC1 (in), 10 VCC (power), 11 P50/~{WKP0} (io), 12 P51/~{WKP1} (io), 13 P52/~{WKP2} (io), 14 P53/~{WKP3} (io), 15 P54/~{WKP4} (io), 16 P55/~{WKP5}/~{ADTRG} (io), 17 P10 (io), 18 P11 (io), 19 P12/SCK3_3 (io), 20 P56/RXD_3 (io), 21 P57/TXD_3 (io), 22 P74/TMRIV (io), 23 P75/TMCIV (io), 24 P76/TMOV (io), 25 ~{NMI} (in), 26 P80/FTCI (io), 27 P81/FTIOA (io), 28 P82/FTIOB (io), 29 P83/FTIOC (io), 30 P84/FTIOD (io), 31 E10T_0 (io), 32 E10T_1 (io), 33 E10T_2 (io), 34 P20/SCK3 (io), 35 P21/RXD (io), 36 P22/TXD (io), 37 P14/~{IRQ0} (io), 38 P15 (io), 39 P16 (io), 40 P17/~{IRQ3}/TRGV (io), 41 P73 (io), 42 P72/TXD_2 (io), 43 P71/RXD_2 (io), 44 P70/SCK3_2 (io), 45 PB3/AN3 (in), 46 PB2/AN2 (in), 47 PB1/AN1 (in), 48 PB0/AN0 (in)